# Altium schematic symbol library ZX_MyLib.SchLib: 567 symbols (part 4 of 5)
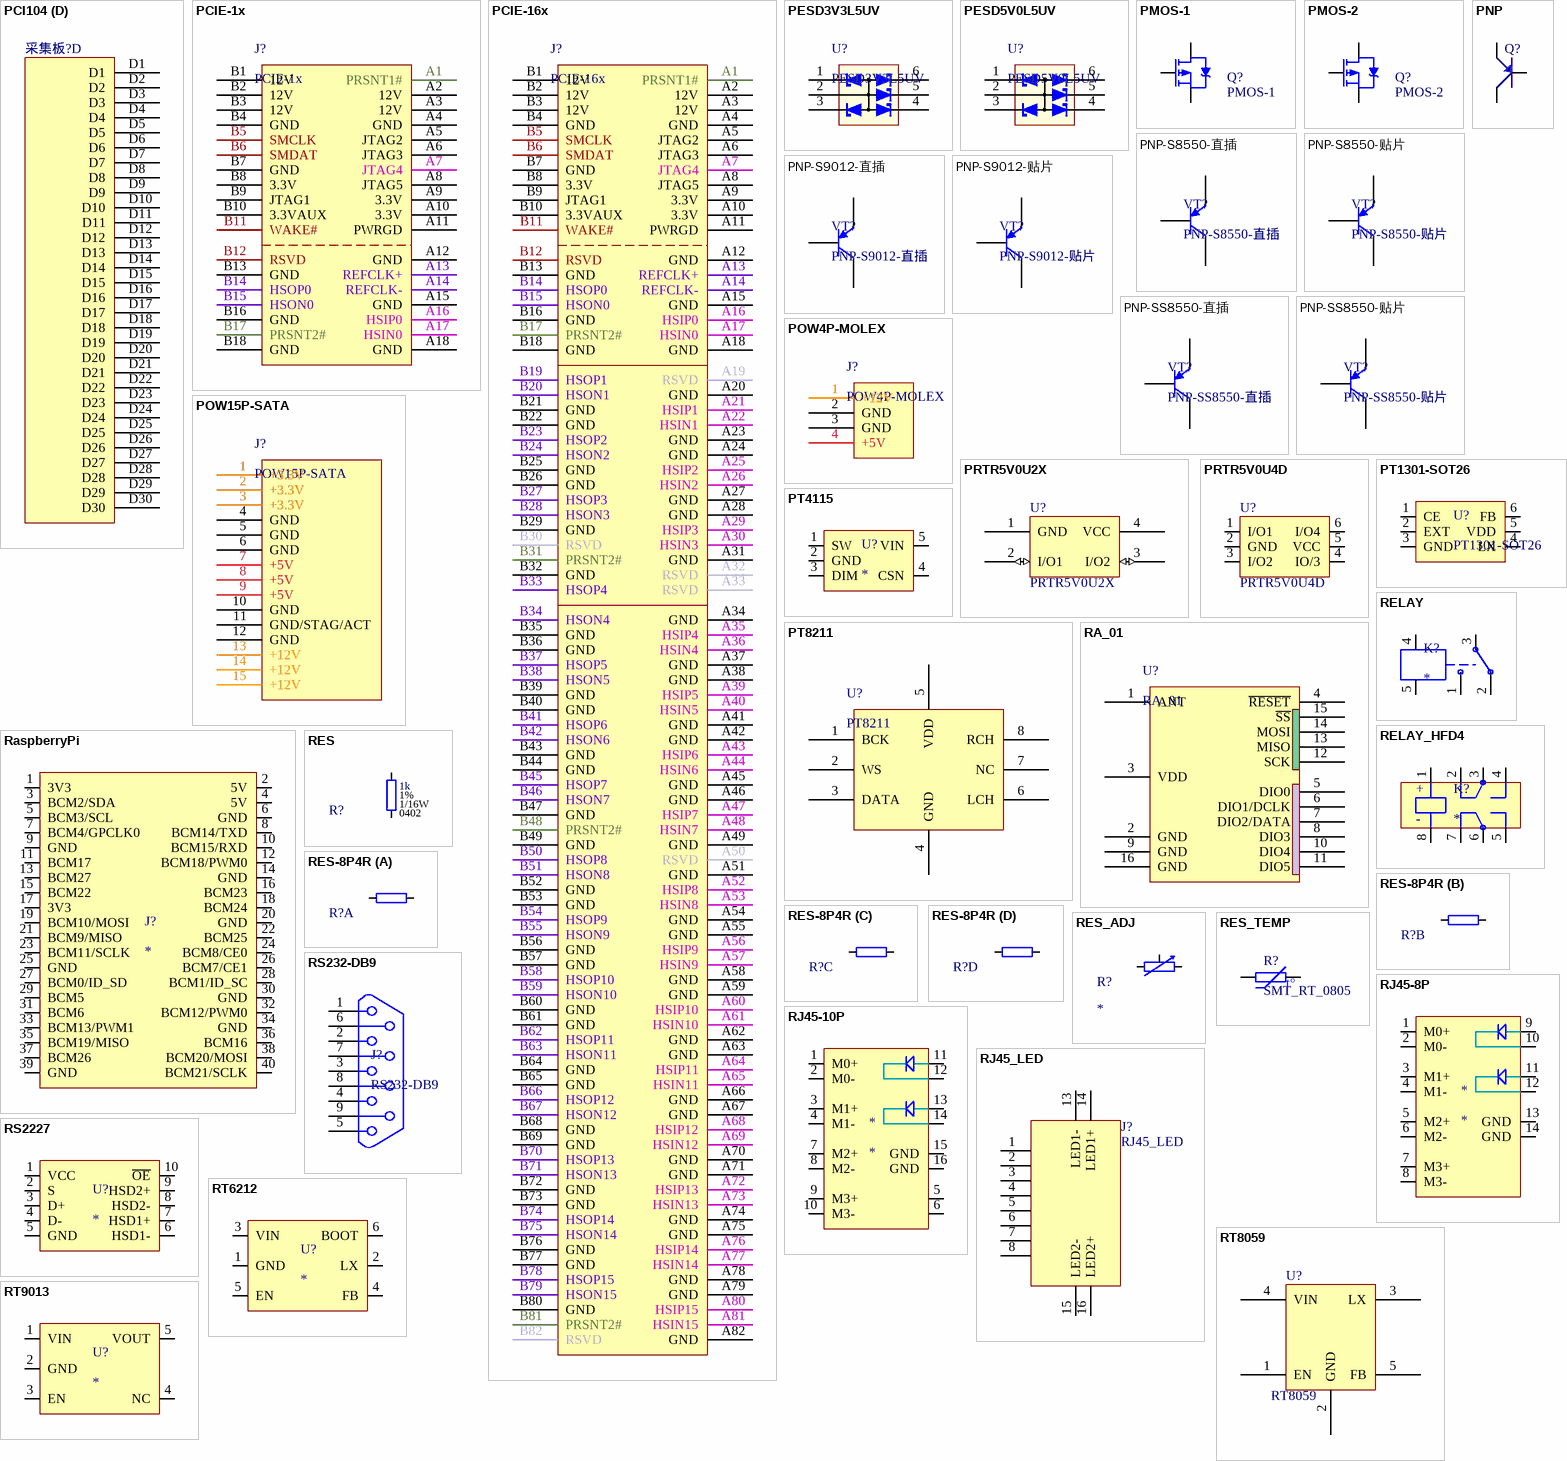
[diagram p33: symbols PCI104 to RT9013]

## RaspberryPi
designator J?
footprint 20PIN_2H_2.54MM
pins: 1 3V3, 2 5V, 3 BCM2/SDA, 4 5V, 5 BCM3/SCL, 6 GND, 7 BCM4/GPCLK0, 8 BCM14/TXD, 9 GND, 10 BCM15/RXD, 11 BCM17, 12 BCM18/PWM0, 13 BCM27, 14 GND, 15 BCM22, 16 BCM23, 17 3V3, 18 BCM24, 19 BCM10/MOSI, 20 GND, 21 BCM9/MISO, 22 BCM25, 23 BCM11/SCLK, 24 BCM8/CE0, 25 GND, 26 BCM7/CE1, 27 BCM0/ID_SD, 28 BCM1/ID_SC, 29 BCM5, 30 GND, 31 BCM6, 32 BCM12/PWM0, 33 BCM13/PWM1, 34 GND, 35 BCM19/MISO, 36 BCM16, 37 BCM26, 38 BCM20/MOSI, 39 GND, 40 BCM21/SCLK

## RELAY
designator K?
pins: 1, 2, 3, 4, 5

## RELAY_HFD4
designator K?
footprint HFD4_DIP
footprint HFD4_SMT
pins: 1, 2, 3, 4, 5, 6, 7, 8
text: +; -

## RES
designator R?  value 1k  Footprint: 0402  Tolerance: 1%  Wattage: 1/16W
贴片电阻
footprint 0402_RES_SMT
footprint 0603_RES_SMT
footprint 0805_RES_SMT
pins: 1, 2

## RES-8P4R
designator R?  (value not drawn)
footprint 0603 - RES - 8P4R
footprint RN0402-4
part A pins: 1, 2
part B pins: 3, 4
part C pins: 5, 6
part D pins: 7, 8

## RES_ADJ
designator R?
footprint 3296
pins: 1, 2, 3

## RES_TEMP
designator R?, comment SMT_RT_0805
Surface mount thermal resistor (thermistor) 0805
footprint SMT_R_0805 (Surface mount resistor 0805)
pins: 1, 2
text: t°

## RJ45-8P
designator *
footprint RJ-45 8P180D
pins: 1 M0+, 2 M0-, 3 M1+, 4 M1-, 5 M2+, 6 M2-, 7 M3+, 8 M3-, 9 LED1_A, 10 LED1_K, 11 LED1_A, 12 LED2_K, 13 GND, 14 GND
1 alternate drawing of the same symbol

## RJ45-10P
designator *
footprint RJ-45 10P180D
pins: 1 M0+, 2 M0-, 3 M1+, 4 M1-, 5, 6, 7 M2+, 8 M2-, 9 M3+, 10 M3-, 11 LED1_A, 12 LED1_K, 13 LED1_A, 14 LED2_K, 15 GND, 16 GND
1 alternate drawing of the same symbol

## RJ45_LED
designator J?
RJ45 With two LEDs
footprint RJ45_9803_LED (RJ45 9803 With LED)
pins: 1, 2, 3, 4, 5, 6, 7, 8, 13 LED1-, 14 LED1+, 15 LED2-, 16 LED2+

## RS232-DB9
designator J?
pins: 1, 2, 3, 4, 5, 6, 7, 8, 9

## RS2227
designator U?
USB 多路复用开关
footprint MSOP10
pins: 1 VCC, 2 S, 3 D+, 4 D-, 5 GND, 6 HSD1-, 7 HSD1+, 8 HSD2-, 9 HSD2+, 10 ~{OE}

## RT6212
designator U?
DCDC电源芯片
footprint SOT23-6 (SOT-457/SC-74; 6 Leads; Body 3 x 3 mm, inc. leads (LxW max))
pins: 1 GND, 2 LX, 3 VIN, 4 FB, 5 EN, 6 BOOT

## RT8059
designator U?
1.5MHz, 1A, High Efficiency PWM Step-Down DC/DC Converter
footprint SOT23-5 (SOT-23/SC-74A; 5 Leads; Body 3 x 3 mm, inc. leads (LxW max))
pins: 1 EN "Chip Enable Mode Switch", 2 GND "Ground", 3 LX "Switching Output", 4 VIN "Power Input", 5 FB "Output Voltage Sense"

## RT9013
designator U?
footprint SOT23-5 (SOT-23/SC-74A; 5 Leads; Body 3 x 3 mm, inc. leads (LxW max))
pins: 1 VIN, 2 GND, 3 EN, 4 NC, 5 VOUT

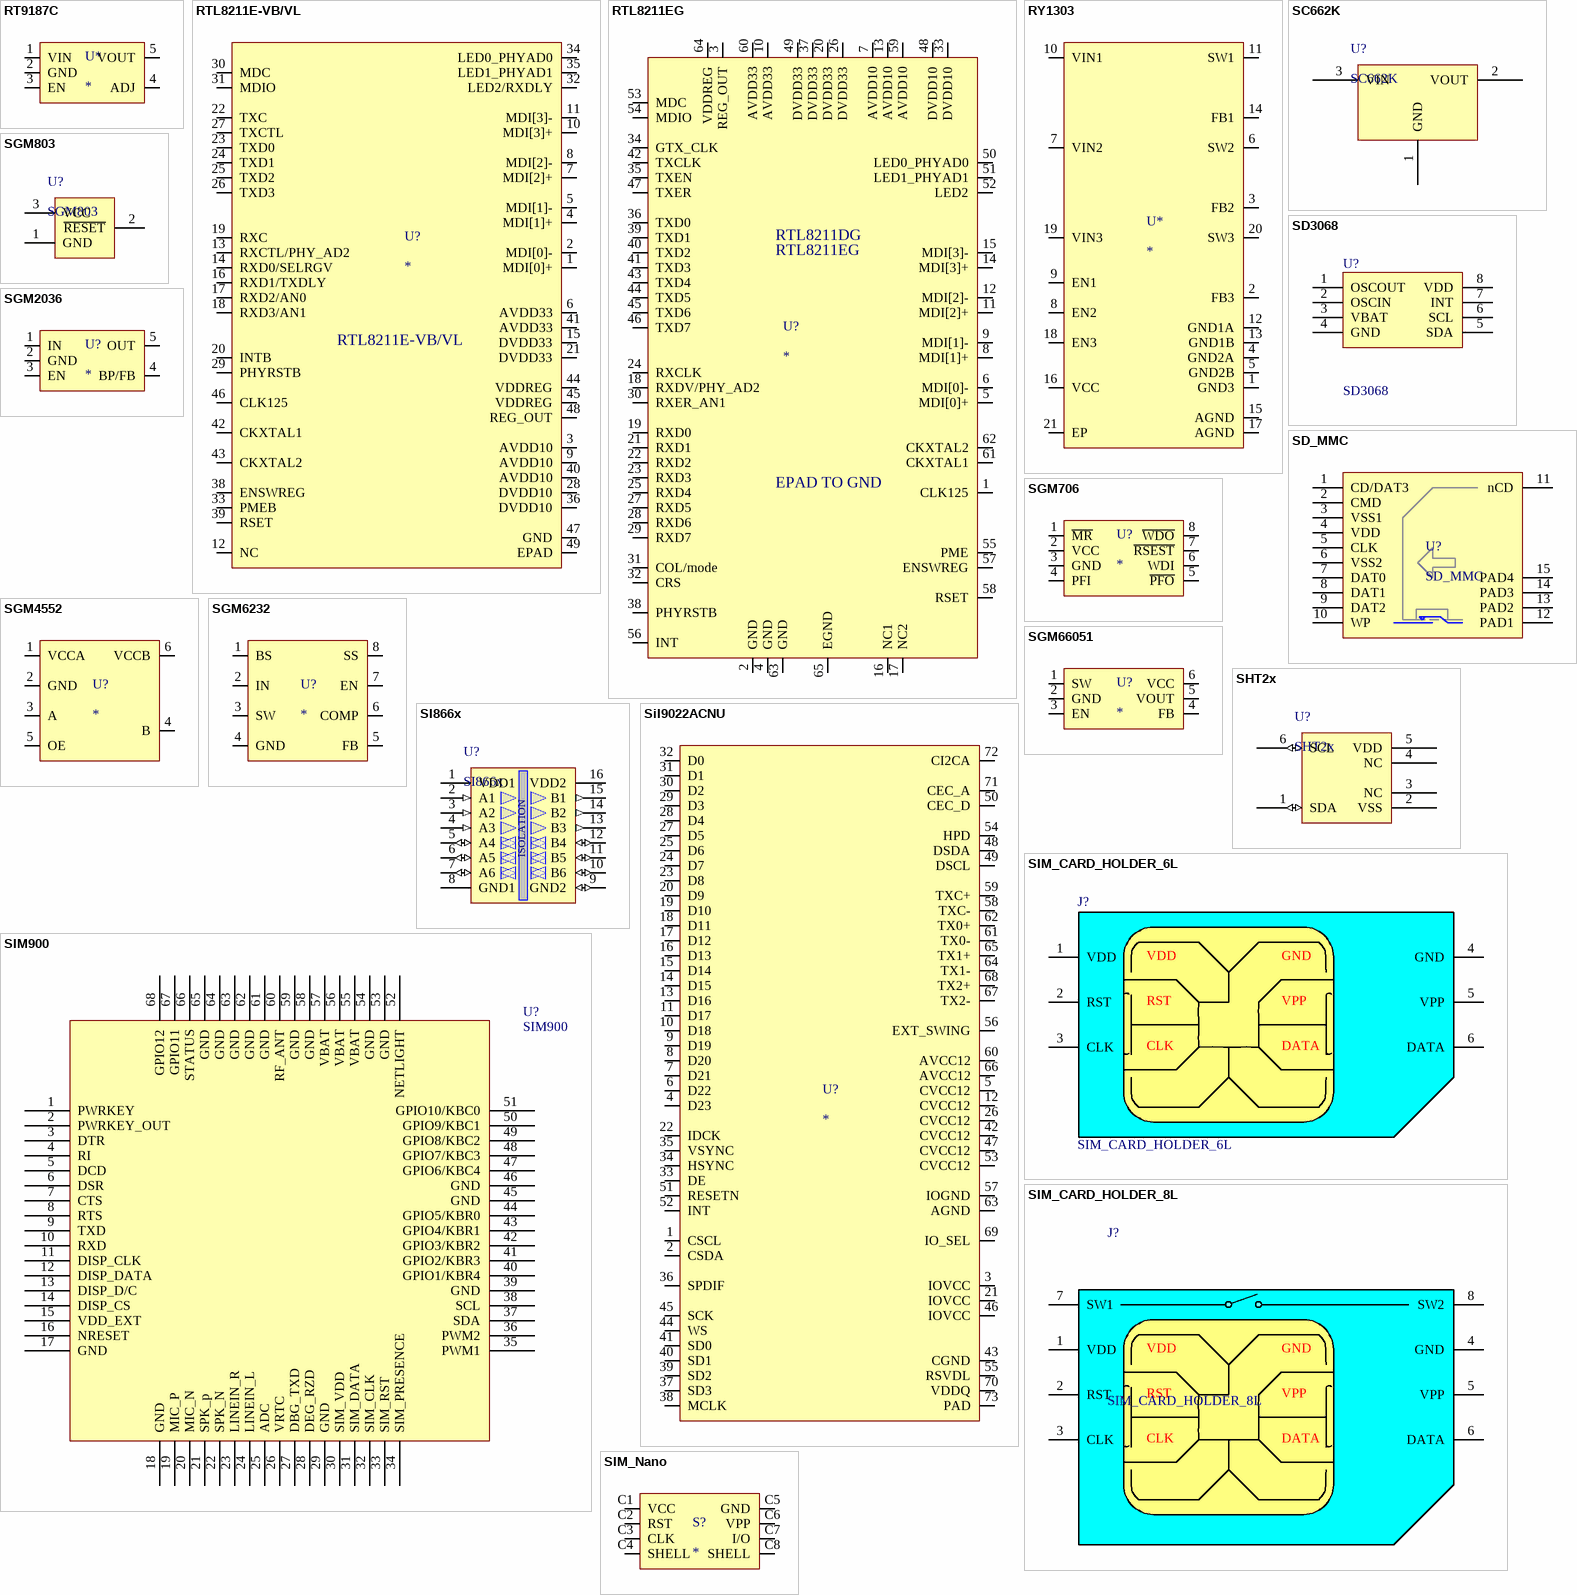
[diagram p20: symbols RT9187C to SIM_Nano]

## RT9187C
designator U*
pins: 1 VIN, 2 GND, 3 EN, 4 ADJ, 5 VOUT

## RTL8211E-VB/VL
designator U?
footprint QFN48 (QFN, 48-Leads, Body 6,0x6,0mm (max), Pitch 0,40mm, IPC Medium Density)
pins: 1 MDI[0]+, 2 MDI[0]-, 3 AVDD10, 4 MDI[1]+, 5 MDI[1]-, 6 AVDD33, 7 MDI[2]+, 8 MDI[2]-, 9 AVDD10, 10 MDI[3]+, 11 MDI[3]-, 12 NC, 13 RXCTL/PHY_AD2, 14 RXD0/SELRGV, 15 DVDD33, 16 RXD1/TXDLY, 17 RXD2/AN0, 18 RXD3/AN1, 19 RXC, 20 INTB, 21 DVDD33, 22 TXC, 23 TXD0, 24 TXD1, 25 TXD2, 26 TXD3, 27 TXCTL, 28 DVDD10, 29 PHYRSTB, 30 MDC, 31 MDIO, 32 LED2/RXDLY, 33 PMEB, 34 LED0_PHYAD0, 35 LED1_PHYAD1, 36 DVDD10, 38 ENSWREG, 39 RSET, 40 AVDD10, 41 AVDD33, 42 CKXTAL1, 43 CKXTAL2, 44 VDDREG, 45 VDDREG, 46 CLK125, 47 GND, 48 REG_OUT, 49 EPAD

## RTL8211EG
designator U?
footprint QFN64 (QFN65-050-0909)
pins: 1 CLK125, 2 GND, 3 REG_OUT, 4 GND, 5 MDI[0]+, 6 MDI[0]-, 7 AVDD10, 8 MDI[1]+, 9 MDI[1]-, 10 AVDD33, 11 MDI[2]+, 12 MDI[2]-, 13 AVDD10, 14 MDI[3]+, 15 MDI[3]-, 16 NC1, 17 NC2, 18 RXDV/PHY_AD2, 19 RXD0, 20 DVDD33, 21 RXD1, 22 RXD2, 23 RXD3, 24 RXCLK, 25 RXD4, 26 DVDD33, 27 RXD5, 28 RXD6, 29 RXD7, 30 RXER_AN1, 31 COL/mode, 32 CRS, 33 DVDD10, 34 GTX_CLK, 35 TXEN, 36 TXD0, 37 DVDD33, 38 PHYRSTB, 39 TXD1, 40 TXD2, 41 TXD3, 42 TXCLK, 43 TXD4, 44 TXD5, 45 TXD6, 46 TXD7, 47 TXER, 48 DVDD10, 49 DVDD33, 50 LED0_PHYAD0, 51 LED1_PHYAD1, 52 LED2, 53 MDC, 54 MDIO, 55 PME, 56 INT, 57 ENSWREG, 58 RSET, 59 AVDD10, 60 AVDD33, 61 CKXTAL1, 62 CKXTAL2, 63 GND, 64 VDDREG, 65 EGND
text: RTL8211DG; EPAD TO GND

## RY1303
designator U*
3路输出DC-DC电源芯片
footprint QFN20_3X3_RY1303
pins: 1 GND3, 2 FB3, 3 FB2, 4 GND2A, 5 GND2B, 6 SW2, 7 VIN2, 8 EN2, 9 EN1, 10 VIN1, 11 SW1, 12 GND1A, 13 GND1B, 14 FB1, 15 AGND, 16 VCC, 17 AGND, 18 EN3, 19 VIN3, 20 SW3, 21 EP

## SC662K
designator U?
250mA Low Dropout Voltage Regulator IC
footprint SOT23-3 (SOT-23; 3 Leads; Body 3.0 x 2.5 mm, inc. leads (LxW max))
pins: 1 GND "Ground", 2 VOUT "Voltage Output", 3 VIN "Voltage Input"

## SD3068
designator U?
SD3068 RTC Timer, Built in resonant capacitor, full temperature compensation of the real time clock IC; VENDOR: www.whwave.com.cn
footprint SOP-8 (8-Pin Small Outline Integrated Circuit 1.27 mm Pitch, IPC Low Density)
pins: 1 OSCOUT "0～1.5V Crystal oscillator output", 2 OSCIN "0～1.5V Crystal oscillator input", 3 VBAT "2.3V～5.5V Standby battery input pin, built-in voltage and charging current optional charge Circuit", 4 GND "Ground", 5 SDA "Serial data input / output pin, the pin usually with a pull-up resistance To VDD, and the collector open output device and other open drain or Through the line and connected.", 6 SCL "Serial clock input pin, due to the rising / falling edge of SCL in the processing signal Number, pay particular attention to the rise / fall time of SCL signal, Should strictly comply with the specification.", 7 INT "Alarm interrupt output pin, according to the control register to set up their work It can model, to prohibit by rewriting the control register.", 8 VDD "Power 2.7V～5.5V"

## SD_MMC
designator U?
SD and MMC CARD Holder
footprint SD_MMC (SD and MMC CARD Holder)
pins: 1 CD/DAT3, 2 CMD, 3 VSS1, 4 VDD, 5 CLK, 6 VSS2, 7 DAT0, 8 DAT1, 9 DAT2, 10 WP, 11 nCD, 12 PAD1, 13 PAD2, 14 PAD3, 15 PAD4

## SGM706
designator U?
footprint SOP-8_M (8-Pin Small Outline Integrated Circuit 1.27 mm Pitch, IPC Low Density)
pins: 1 ~{MR}, 2 VCC, 3 GND, 4 PFI, 5 ~{PFO}, 6 WDI, 7 ~{RSEST}, 8 ~{WDO}

## SGM803
designator U?
SGM803/SGM809/SGM810 / Microprocessor Supervisory / Circuit
footprint SOT23-3 (SOT-23; 3 Leads; Body 3.0 x 2.5 mm, inc. leads (LxW max))
pins: 1 GND (power) "Ground", 2 ~{RESET} "Open-Drain RESET Output", 3 VCC (power) "Power supply"

## SGM2036
designator U?
pins: 1 IN, 2 GND, 3 EN, 4 BP/FB, 5 OUT

## SGM4552
designator U?
footprint SOT23-6 (SOT-457/SC-74; 6 Leads; Body 3 x 3 mm, inc. leads (LxW max))
pins: 1 VCCA, 2 GND, 3 A, 4 B, 5 OE, 6 VCCB

## SGM6232
designator U?
2A, 38V, 1.4MHz Step-Down Converter
pins: 1 BS, 2 IN, 3 SW, 4 GND, 5 FB, 6 COMP, 7 EN, 8 SS

## SGM66051
designator U?
footprint SOT23-6 (SOT-457/SC-74; 6 Leads; Body 3 x 3 mm, inc. leads (LxW max))
pins: 1 SW, 2 GND, 3 EN, 4 FB, 5 VOUT, 6 VCC

## SHT2x
designator U?
Humidity and Temperature Sensor
footprint SHT2x (SHT2x, The outer dotted line represents the  outer dime  nsion of the DFN package)
pins: 1 SDA (io) "Serial  Data  , bidirectional", 2 VSS (power) "Ground", 3 NC "Not Connected, floating", 4 NC "Not Connected, floating", 5 VDD (power) "Supply Voltage", 6 SCL (io) "Serial Clock, bidirectional"

## SI866x
designator U?
SI866x LOW POWER SIX-CHANNEL DIGITAL ISOLATOR
footprint SOP-16 (16-Pin Small Outline Integrated Circuit 1.27 mm Pitch, IPC Low Density)
pins: 1 VDD1 (power) "Side 1 power supply", 2 A1 (in) "Side 1 digital input", 3 A2 (in) "Side 1 digital input", 4 A3 (in) "Side 1 digital input", 5 A4 (io), 6 A5 (io), 7 A6 (io), 8 GND1 (power), 9 GND2 (io), 10 B6 (io), 11 B5 (io), 12 B4 (io), 13 B3 (out), 14 B2 (out), 15 B1 (out), 16 VDD2 (power)
text: ISOLATION

## SiI9022ACNU
designator U?
footprint QFN_72 (10x10mm, 0.5mm)
pins: 1 CSCL, 2 CSDA, 3 IOVCC, 4 D23, 5 CVCC12, 6 D22, 7 D21, 8 D20, 9 D19, 10 D18, 11 D17, 12 CVCC12, 13 D16, 14 D15, 15 D14, 16 D13, 17 D12, 18 D11, 19 D10, 20 D9, 21 IOVCC, 22 IDCK, 23 D8, 24 D7, 25 D6, 26 CVCC12, 27 D5, 28 D4, 29 D3, 30 D2, 31 D1, 32 D0, 33 DE, 34 HSYNC, 35 VSYNC, 36 SPDIF, 37 SD3, 38 MCLK, 39 SD2, 40 SD1, 41 SD0, 42 CVCC12, 43 CGND, 44 WS, 45 SCK, 46 IOVCC, 47 CVCC12, 48 DSDA, 49 DSCL, 50 CEC_D, 51 RESETN, 52 INT, 53 CVCC12, 54 HPD, 55 RSVDL, 56 EXT_SWING, 57 IOGND, 58 TXC-, 59 TXC+, 60 AVCC12, 61 TX0-, 62 TX0+, 63 AGND, 64 TX1-, 65 TX1+, 66 AVCC12, 67 TX2-, 68 TX2+, 69 IO_SEL, 70 VDDQ, 71 CEC_A, 72 CI2CA, 73 PAD

## SIM900
designator U?
SIM900/SIM900A
footprint SIM900
footprint SIM900
pins: 1 PWRKEY, 2 PWRKEY_OUT, 3 DTR, 4 RI, 5 DCD, 6 DSR, 7 CTS, 8 RTS, 9 TXD, 10 RXD, 11 DISP_CLK, 12 DISP_DATA, 13 DISP_D/C, 14 DISP_CS, 15 VDD_EXT, 16 NRESET, 17 GND, 18 GND, 19 MIC_P, 20 MIC_N, 21 SPK_p, 22 SPK_N, 23 LINEIN_R, 24 LINEIN_L, 25 ADC, 26 VRTC, 27 DBG_TXD, 28 DEG_RZD, 29 GND, 30 SIM_VDD, 31 SIM_DATA, 32 SIM_CLK, 33 SIM_RST, 34 SIM_PRESENCE, 35 PWM1, 36 PWM2, 37 SDA, 38 SCL, 39 GND, 40 GPIO1/KBR4, 41 GPIO2/KBR3, 42 GPIO3/KBR2, 43 GPIO4/KBR1, 44 GPIO5/KBR0, 45 GND, 46 GND, 47 GPIO6/KBC4, 48 GPIO7/KBC3, 49 GPIO8/KBC2, 50 GPIO9/KBC1, 51 GPIO10/KBC0, 52 NETLIGHT, 53 GND, 54 GND, 55 VBAT, 56 VBAT, 57 VBAT, 58 GND, 59 GND, 60 RF_ANT, 61 GND, 62 GND, 63 GND, 64 GND, 65 GND, 66 STATUS, 67 GPIO11, 68 GPIO12

## SIM_CARD_HOLDER_6L
designator J?
SIM CARD HOLDER
footprint SIMCARD_HOLDER_6L_CLAMSHELL (Simcard holder)
pins: 1 VDD, 2 RST, 3 CLK, 4 GND, 5 VPP, 6 DATA
2 alternate drawings of the same symbol

## SIM_CARD_HOLDER_8L
designator J?
SIM CARD HOLDER
footprint SIMCARD_HOLDER_8L (Simcard holder)
pins: 1 VDD, 2 RST, 3 CLK, 4 GND, 5 VPP, 6 DATA, 7 SW1, 8 SW2

## SIM_Nano
designator S?
footprint SIM_NANO
pins: C1 VCC, C2 RST, C3 CLK, C4 SHELL, C5 GND, C6 VPP, C7 I/O, C8 SHELL

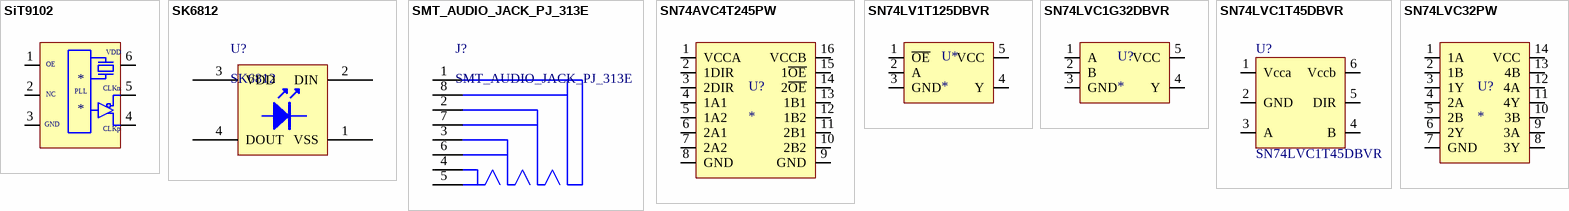
[diagram p21: symbols SiT9102 to SN74LVC32PW]

## SiT9102
designator *
差分晶振
footprint 7050-6 (OSC6-5X7)
pins: 1 OE, 2 NC, 3 GND, 4 CLKP, 5 CLKN, 6 VDD
text: PLL; CLKn; CLKp

## SK6812
designator U?
SK6812 is a set of smart control circuit and a light emitting circuit in  one of the controlled LED source.
footprint SK6812_5050 (SMT LED)
pins: 1 VSS "Ground", 2 DIN "Control data signal input", 3 VDD "Power supply LED", 4 DOUT "Control data signal output"

## SMT_AUDIO_JACK_PJ_313E
designator J?
PJ-313E 3.5mm SMT Audio Jack
footprint SMT_AUDIO_JACK_PJ_313E (PJ-313E 3.5mm SMT Audio Jack)
pins: 1 GND/MIC "Ground or Microphone", 2 MIC/GND "Microphone or Ground", 3 RCH "Right channel", 4 LCH "Left channel", 5 LCH "Left channel", 6 RCH "Right channel", 7 MIC/GND "Microphone or Ground", 8 GND/MIC "Ground or Microphone"

## SN74AVC4T245PW
designator U?
具有可配置电压转换和三态输出的 4 位双电源总线收发器
pins: 1 VCCA, 2 1DIR, 3 2DIR, 4 1A1, 5 1A2, 6 2A1, 7 2A2, 8 GND, 9 GND, 10 2B2, 11 2B1, 12 1B2, 13 1B1, 14 2~{OE}, 15 1~{OE}, 16 VCCB

## SN74LV1T125DBVR
designator U*
footprint SOT-23-5
pins: 1 ~{OE}, 2 A, 3 GND, 4 Y, 5 VCC

## SN74LVC1G32DBVR
designator U?
或门
footprint SOT23-5 (SOT-23/SC-74A; 5 Leads; Body 3 x 3 mm, inc. leads (LxW max))
pins: 1 A, 2 B, 3 GND, 4 Y, 5 VCC

## SN74LVC1T45DBVR
designator U?
Single-Bit Dual-Supply Bus Transceiver With Configurable Voltage / Translation and 3-State Outputs
footprint SOT23-6 (SOT-457/SC-74; 6 Leads; Body 3 x 3 mm, inc. leads (LxW max))
pins: 1 Vcca (power) "SYSTEM-1 supply voltage (1.65 V to 5.5 V)", 2 GND (power) "Device GND", 3 A "Output level depends on VCC1 voltage.", 4 B "Input threshold value depends on VCC2 voltage.", 5 DIR "GND (low level) determines B-port to A-port direction.", 6 Vccb (power) "SYSTEM-2 supply voltage (1.65 V to 5.5 V)"

## SN74LVC32PW
designator U?
footprint TSSOP14
pins: 1 1A, 2 1B, 3 1Y, 4 2A, 5 2B, 6 2Y, 7 GND, 8 3Y, 9 3A, 10 3B, 11 4Y, 12 4A, 13 4B, 14 VCC

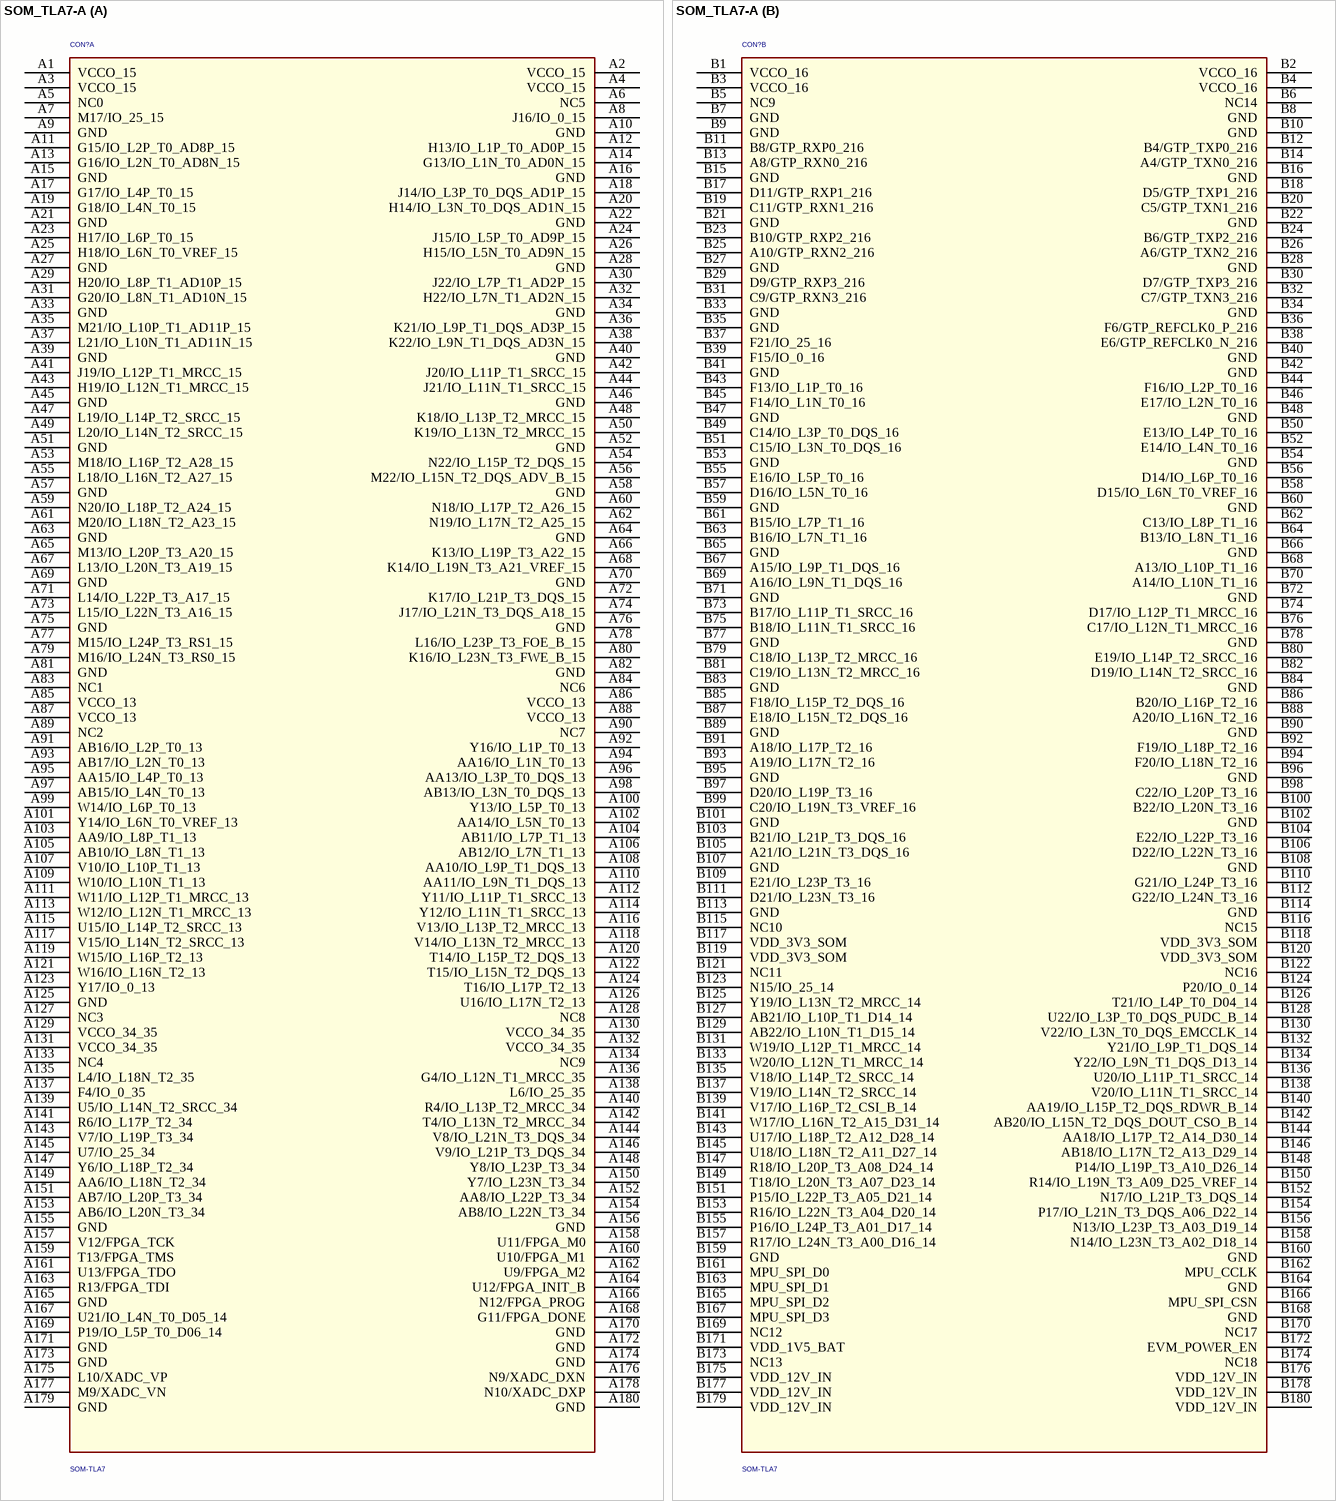
[diagram p22: symbol SOM_TLA7-A]

## SOM_TLA7-A
designator CON?, comment SOM-TLA7
Manufacturer PartNumber: BSH-090-01-L-D-A-TR BTH-090-01-L-D-A-K-TR; Manufacturer: SAMTEC; Remark: BTB 180Pin 0.5mm间距 ，CON0A为母座，高度3.25mm，CON0B为公座 高度4.27MM 合高5MM
footprint SOM-TLA7-A2
part A pins: A1 VCCO_15 (power), A2 VCCO_15 (power), A3 VCCO_15 (power), A4 VCCO_15 (power), A5 NC0, A6 NC5, A7 M17/IO_25_15, A8 J16/IO_0_15, A9 GND (power), A10 GND (power), A11 G15/IO_L2P_T0_AD8P_15, A12 H13/IO_L1P_T0_AD0P_15, A13 G16/IO_L2N_T0_AD8N_15, A14 G13/IO_L1N_T0_AD0N_15, A15 GND (power), A16 GND (power), A17 G17/IO_L4P_T0_15, A18 J14/IO_L3P_T0_DQS_AD1P_15, A19 G18/IO_L4N_T0_15, A20 H14/IO_L3N_T0_DQS_AD1N_15, A21 GND (power), A22 GND (power), A23 H17/IO_L6P_T0_15, A24 J15/IO_L5P_T0_AD9P_15, A25 H18/IO_L6N_T0_VREF_15, A26 H15/IO_L5N_T0_AD9N_15, A27 GND (power), A28 GND (power), A29 H20/IO_L8P_T1_AD10P_15, A30 J22/IO_L7P_T1_AD2P_15, A31 G20/IO_L8N_T1_AD10N_15, A32 H22/IO_L7N_T1_AD2N_15, A33 GND (power), A34 GND (power), A35 M21/IO_L10P_T1_AD11P_15, A36 K21/IO_L9P_T1_DQS_AD3P_15, A37 L21/IO_L10N_T1_AD11N_15, A38 K22/IO_L9N_T1_DQS_AD3N_15, A39 GND (power), A40 GND (power), A41 J19/IO_L12P_T1_MRCC_15, A42 J20/IO_L11P_T1_SRCC_15, A43 H19/IO_L12N_T1_MRCC_15, A44 J21/IO_L11N_T1_SRCC_15, A45 GND (power), A46 GND (power), A47 L19/IO_L14P_T2_SRCC_15, A48 K18/IO_L13P_T2_MRCC_15, A49 L20/IO_L14N_T2_SRCC_15, A50 K19/IO_L13N_T2_MRCC_15, A51 GND (power), A52 GND (power), A53 M18/IO_L16P_T2_A28_15, A54 N22/IO_L15P_T2_DQS_15, A55 L18/IO_L16N_T2_A27_15, A56 M22/IO_L15N_T2_DQS_ADV_B_15, A57 GND (power), A58 GND (power), A59 N20/IO_L18P_T2_A24_15, A60 N18/IO_L17P_T2_A26_15, A61 M20/IO_L18N_T2_A23_15, A62 N19/IO_L17N_T2_A25_15, A63 GND (power), A64 GND (power), A65 M13/IO_L20P_T3_A20_15, A66 K13/IO_L19P_T3_A22_15, A67 L13/IO_L20N_T3_A19_15, A68 K14/IO_L19N_T3_A21_VREF_15, A69 GND (power), A70 GND (power), A71 L14/IO_L22P_T3_A17_15, A72 K17/IO_L21P_T3_DQS_15, A73 L15/IO_L22N_T3_A16_15, A74 J17/IO_L21N_T3_DQS_A18_15, A75 GND (power), A76 GND (power), A77 M15/IO_L24P_T3_RS1_15, A78 L16/IO_L23P_T3_FOE_B_15, A79 M16/IO_L24N_T3_RS0_15, A80 K16/IO_L23N_T3_FWE_B_15, A81 GND (power), A82 GND (power), A83 NC1, A84 NC6, A85 VCCO_13 (power), A86 VCCO_13 (power), A87 VCCO_13 (power), A88 VCCO_13 (power), A89 NC2, A90 NC7, A91 AB16/IO_L2P_T0_13, A92 Y16/IO_L1P_T0_13, A93 AB17/IO_L2N_T0_13, A94 AA16/IO_L1N_T0_13, A95 AA15/IO_L4P_T0_13, A96 AA13/IO_L3P_T0_DQS_13, A97 AB15/IO_L4N_T0_13, A98 AB13/IO_L3N_T0_DQS_13, A99 W14/IO_L6P_T0_13, A100 Y13/IO_L5P_T0_13, A101 Y14/IO_L6N_T0_VREF_13, A102 AA14/IO_L5N_T0_13, A103 AA9/IO_L8P_T1_13, A104 AB11/IO_L7P_T1_13, A105 AB10/IO_L8N_T1_13, A106 AB12/IO_L7N_T1_13, A107 V10/IO_L10P_T1_13, A108 AA10/IO_L9P_T1_DQS_13, A109 W10/IO_L10N_T1_13, A110 AA11/IO_L9N_T1_DQS_13, A111 W11/IO_L12P_T1_MRCC_13, A112 Y11/IO_L11P_T1_SRCC_13, A113 W12/IO_L12N_T1_MRCC_13, A114 Y12/IO_L11N_T1_SRCC_13, A115 U15/IO_L14P_T2_SRCC_13, A116 V13/IO_L13P_T2_MRCC_13, A117 V15/IO_L14N_T2_SRCC_13, A118 V14/IO_L13N_T2_MRCC_13, A119 W15/IO_L16P_T2_13, A120 T14/IO_L15P_T2_DQS_13, A121 W16/IO_L16N_T2_13, A122 T15/IO_L15N_T2_DQS_13, A123 Y17/IO_0_13, A124 T16/IO_L17P_T2_13, A125 GND (power), A126 U16/IO_L17N_T2_13, A127 NC3, A128 NC8, A129 VCCO_34_35 (power), A130 VCCO_34_35 (power), A131 VCCO_34_35 (power), A132 VCCO_34_35 (power), A133 NC4, A134 NC9, A135 L4/IO_L18N_T2_35, A136 G4/IO_L12N_T1_MRCC_35, A137 F4/IO_0_35, A138 L6/IO_25_35, A139 U5/IO_L14N_T2_SRCC_34, A140 R4/IO_L13P_T2_MRCC_34, A141 R6/IO_L17P_T2_34, A142 T4/IO_L13N_T2_MRCC_34, A143 V7/IO_L19P_T3_34, A144 V8/IO_L21N_T3_DQS_34, A145 U7/IO_25_34, A146 V9/IO_L21P_T3_DQS_34, A147 Y6/IO_L18P_T2_34, A148 Y8/IO_L23P_T3_34, A149 AA6/IO_L18N_T2_34, A150 Y7/IO_L23N_T3_34, A151 AB7/IO_L20P_T3_34, A152 AA8/IO_L22P_T3_34, A153 AB6/IO_L20N_T3_34, A154 AB8/IO_L22N_T3_34, A155 GND (power), A156 GND (power), A157 V12/FPGA_TCK, A158 U11/FPGA_M0, A159 T13/FPGA_TMS, A160 U10/FPGA_M1, A161 U13/FPGA_TDO, A162 U9/FPGA_M2, A163 R13/FPGA_TDI, A164 U12/FPGA_INIT_B, A165 GND (power), A166 N12/FPGA_PROG, A167 U21/IO_L4N_T0_D05_14, A168 G11/FPGA_DONE, A169 P19/IO_L5P_T0_D06_14, A170 GND (power), A171 GND (power), A172 GND (power), A173 GND (power), A174 GND (power), A175 L10/XADC_VP, A176 N9/XADC_DXN, A177 M9/XADC_VN, A178 N10/XADC_DXP, A179 GND (power), A180 GND (power)
part B pins: B1 VCCO_16 (power), B2 VCCO_16 (power), B3 VCCO_16 (power), B4 VCCO_16 (power), B5 NC9, B6 NC14, B7 GND (power), B8 GND (power), B9 GND (power), B10 GND (power), B11 B8/GTP_RXP0_216, B12 B4/GTP_TXP0_216, B13 A8/GTP_RXN0_216, B14 A4/GTP_TXN0_216, B15 GND (power), B16 GND (power), B17 D11/GTP_RXP1_216, B18 D5/GTP_TXP1_216, B19 C11/GTP_RXN1_216, B20 C5/GTP_TXN1_216, B21 GND (power), B22 GND (power), B23 B10/GTP_RXP2_216, B24 B6/GTP_TXP2_216, B25 A10/GTP_RXN2_216, B26 A6/GTP_TXN2_216, B27 GND (power), B28 GND (power), B29 D9/GTP_RXP3_216, B30 D7/GTP_TXP3_216, B31 C9/GTP_RXN3_216, B32 C7/GTP_TXN3_216, B33 GND (power), B34 GND (power), B35 GND (power), B36 F6/GTP_REFCLK0_P_216, B37 F21/IO_25_16, B38 E6/GTP_REFCLK0_N_216, B39 F15/IO_0_16, B40 GND (power), B41 GND (power), B42 GND (power), B43 F13/IO_L1P_T0_16, B44 F16/IO_L2P_T0_16, B45 F14/IO_L1N_T0_16, B46 E17/IO_L2N_T0_16, B47 GND (power), B48 GND (power), B49 C14/IO_L3P_T0_DQS_16, B50 E13/IO_L4P_T0_16, B51 C15/IO_L3N_T0_DQS_16, B52 E14/IO_L4N_T0_16, B53 GND (power), B54 GND (power), B55 E16/IO_L5P_T0_16, B56 D14/IO_L6P_T0_16, B57 D16/IO_L5N_T0_16, B58 D15/IO_L6N_T0_VREF_16, B59 GND (power), B60 GND (power), B61 B15/IO_L7P_T1_16, B62 C13/IO_L8P_T1_16, B63 B16/IO_L7N_T1_16, B64 B13/IO_L8N_T1_16, B65 GND (power), B66 GND (power), B67 A15/IO_L9P_T1_DQS_16, B68 A13/IO_L10P_T1_16, B69 A16/IO_L9N_T1_DQS_16, B70 A14/IO_L10N_T1_16, B71 GND (power), B72 GND (power), B73 B17/IO_L11P_T1_SRCC_16, B74 D17/IO_L12P_T1_MRCC_16, B75 B18/IO_L11N_T1_SRCC_16, B76 C17/IO_L12N_T1_MRCC_16, B77 GND (power), B78 GND (power), B79 C18/IO_L13P_T2_MRCC_16, B80 E19/IO_L14P_T2_SRCC_16, B81 C19/IO_L13N_T2_MRCC_16, B82 D19/IO_L14N_T2_SRCC_16, B83 GND (power), B84 GND (power), B85 F18/IO_L15P_T2_DQS_16, B86 B20/IO_L16P_T2_16, B87 E18/IO_L15N_T2_DQS_16, B88 A20/IO_L16N_T2_16, B89 GND (power), B90 GND (power), B91 A18/IO_L17P_T2_16, B92 F19/IO_L18P_T2_16, B93 A19/IO_L17N_T2_16, B94 F20/IO_L18N_T2_16, B95 GND (power), B96 GND (power), B97 D20/IO_L19P_T3_16, B98 C22/IO_L20P_T3_16, B99 C20/IO_L19N_T3_VREF_16, B100 B22/IO_L20N_T3_16, B101 GND (power), B102 GND (power), B103 B21/IO_L21P_T3_DQS_16, B104 E22/IO_L22P_T3_16, B105 A21/IO_L21N_T3_DQS_16, B106 D22/IO_L22N_T3_16, B107 GND (power), B108 GND (power), B109 E21/IO_L23P_T3_16, B110 G21/IO_L24P_T3_16, B111 D21/IO_L23N_T3_16, B112 G22/IO_L24N_T3_16, B113 GND (power), B114 GND (power), B115 NC10, B116 NC15, B117 VDD_3V3_SOM (power), B118 VDD_3V3_SOM (power), B119 VDD_3V3_SOM (power), B120 VDD_3V3_SOM (power), B121 NC11, B122 NC16, B123 N15/IO_25_14, B124 P20/IO_0_14, B125 Y19/IO_L13N_T2_MRCC_14, B126 T21/IO_L4P_T0_D04_14, B127 AB21/IO_L10P_T1_D14_14, B128 U22/IO_L3P_T0_DQS_PUDC_B_14, B129 AB22/IO_L10N_T1_D15_14, B130 V22/IO_L3N_T0_DQS_EMCCLK_14, B131 W19/IO_L12P_T1_MRCC_14, B132 Y21/IO_L9P_T1_DQS_14, B133 W20/IO_L12N_T1_MRCC_14, B134 Y22/IO_L9N_T1_DQS_D13_14, B135 V18/IO_L14P_T2_SRCC_14, B136 U20/IO_L11P_T1_SRCC_14, B137 V19/IO_L14N_T2_SRCC_14, B138 V20/IO_L11N_T1_SRCC_14, B139 V17/IO_L16P_T2_CSI_B_14, B140 AA19/IO_L15P_T2_DQS_RDWR_B_14, B141 W17/IO_L16N_T2_A15_D31_14, B142 AB20/IO_L15N_T2_DQS_DOUT_CSO_B_14, B143 U17/IO_L18P_T2_A12_D28_14, B144 AA18/IO_L17P_T2_A14_D30_14, B145 U18/IO_L18N_T2_A11_D27_14, B146 AB18/IO_L17N_T2_A13_D29_14, B147 R18/IO_L20P_T3_A08_D24_14, B148 P14/IO_L19P_T3_A10_D26_14, B149 T18/IO_L20N_T3_A07_D23_14, B150 R14/IO_L19N_T3_A09_D25_VREF_14, B151 P15/IO_L22P_T3_A05_D21_14, B152 N17/IO_L21P_T3_DQS_14, B153 R16/IO_L22N_T3_A04_D20_14, B154 P17/IO_L21N_T3_DQS_A06_D22_14, B155 P16/IO_L24P_T3_A01_D17_14, B156 N13/IO_L23P_T3_A03_D19_14, B157 R17/IO_L24N_T3_A00_D16_14, B158 N14/IO_L23N_T3_A02_D18_14, B159 GND (power), B160 GND (power), B161 MPU_SPI_D0, B162 MPU_CCLK, B163 MPU_SPI_D1, B164 GND (power), B165 MPU_SPI_D2, B166 MPU_SPI_CSN, B167 MPU_SPI_D3, B168 GND (power), B169 NC12, B170 NC17, B171 VDD_1V5_BAT, B172 EVM_POWER_EN, B173 NC13, B174 NC18, B175 VDD_12V_IN (power), B176 VDD_12V_IN (power), B177 VDD_12V_IN (power), B178 VDD_12V_IN (power), B179 VDD_12V_IN (power), B180 VDD_12V_IN (power)

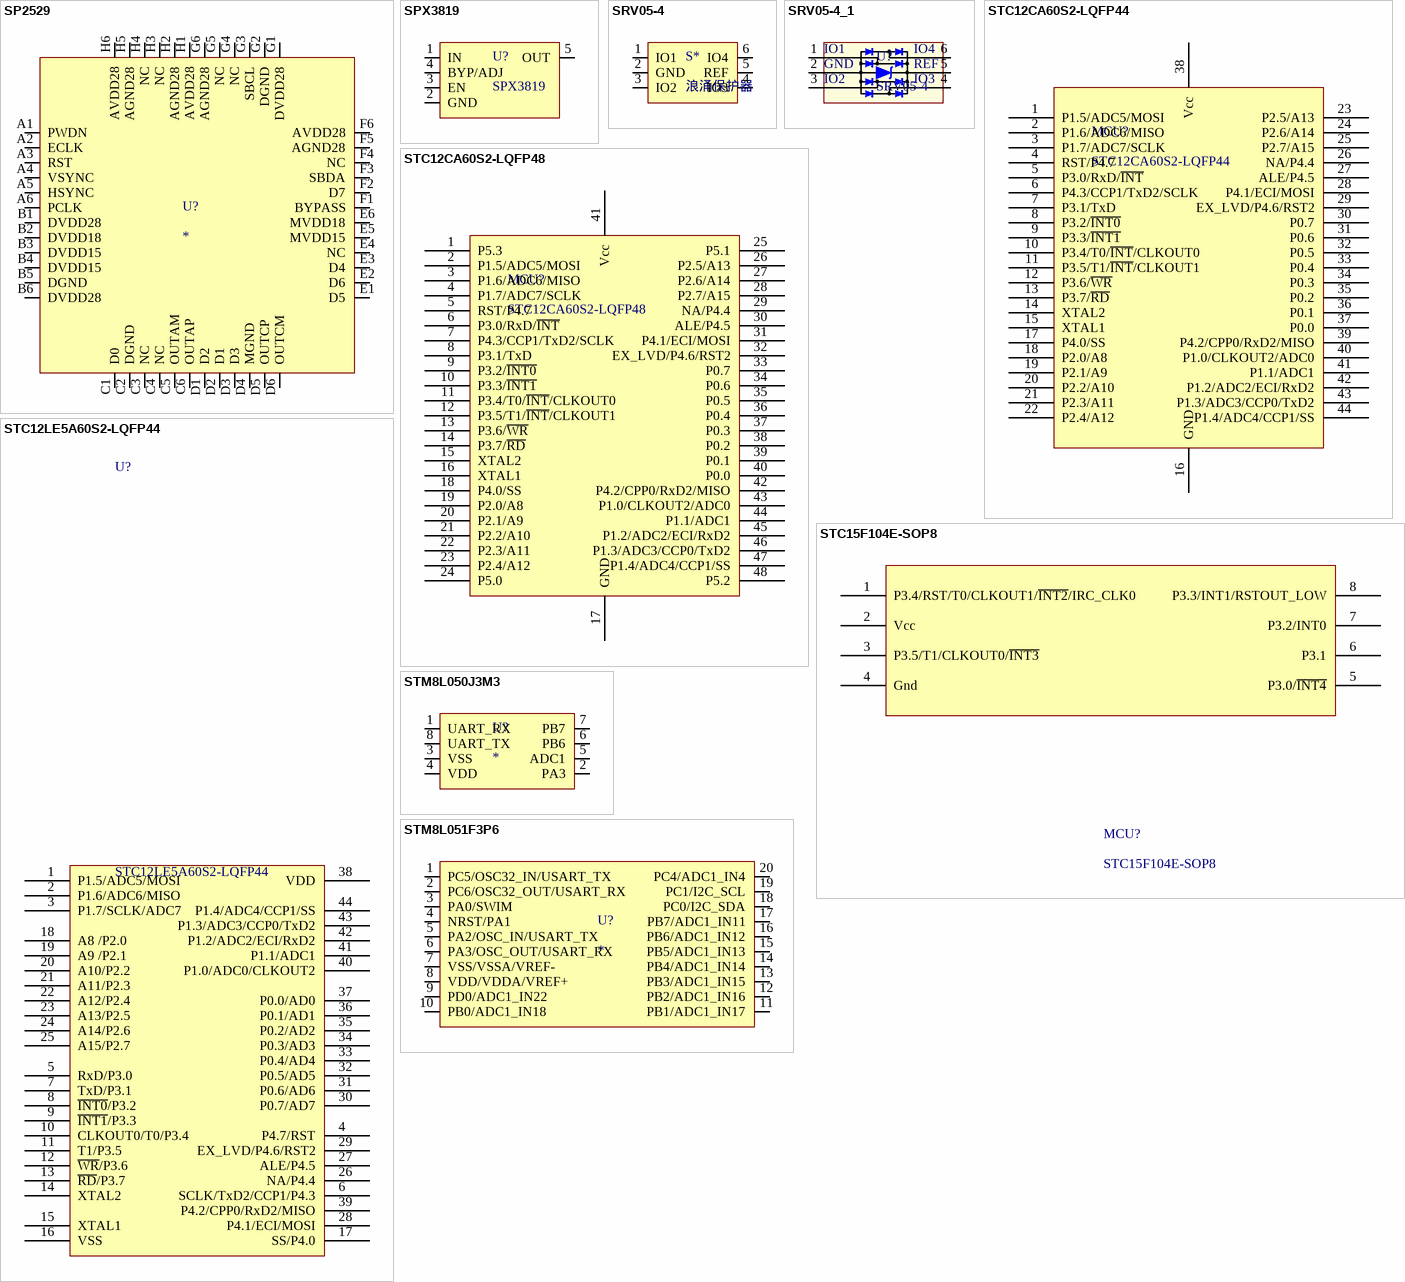
[diagram p23: symbols SP2529 to STM8L051F3P6]

## SP2529
designator U?
pins: A1 PWDN, A2 ECLK, A3 RST, A4 VSYNC, A5 HSYNC, A6 PCLK, B1 DVDD28, B2 DVDD18, B3 DVDD15, B4 DVDD15, B5 DGND, B6 DVDD28, C1 D0, C2 DGND, C3 NC, C4 NC, C5 OUTAM, C6 OUTAP, D1 D2, D2 D1, D3, D4 MGND, D5 OUTCP, D6 OUTCM, E1 D5, E2 D6, E3 D4, E4 NC, E5 MVDD15, E6 MVDD18, F1 BYPASS, F2 D7, F3 SBDA, F4 NC, F5 AGND28, F6 AVDD28, G1 DVDD28, G2 DGND, G3 SBCL, G4 NC, G5 NC, G6 AGND28, H1 AVDD28, H2 AGND28, H3 NC, H4 NC, H5 AGND28, H6 AVDD28

## SPX3819
designator U?
500mA, Low-Noise LDO Voltage Regulator
footprint SOT23-5 (SOT-23/SC-74A; 5 Leads; Body 3 x 3 mm, inc. leads (LxW max))
pins: 1 IN, 2 GND, 3 EN, 4 BYP/ADJ, 5 OUT

## SRV05-4
designator S*, comment 浪涌保护器
footprint SOT-6L
pins: 1 IO1, 2 GND, 3 IO2, 4 IO3, 5 REF, 6 IO4

## SRV05-4_1
designator U?, comment SRV05-4
Low Capacitance(3pF) TVS Diode Array
footprint SOT23-6 (SOT-457/SC-74; 6 Leads; Body 3 x 3 mm, inc. leads (LxW max))
pins: 1, 2, 3, 4, 5, 6
text: IO1; IO4; GND; REF; IO2; IO3

## STC12CA60S2-LQFP44
designator MCU?
footprint STC12CA60S2-LQFP44
pins: 1 P1.5/ADC5/MOSI, 2 P1.6/ADC6/MISO, 3 P1.7/ADC7/SCLK, 4 RST/P4.7, 5 P3.0/RxD/~{INT}, 6 P4.3/CCP1/TxD2/SCLK, 7 P3.1/TxD, 8 P3.2/~{INT0}, 9 P3.3/~{INT1}, 10 P3.4/T0/~{INT}/CLKOUT0, 11 P3.5/T1/~{INT}/CLKOUT1, 12 P3.6/~{WR}, 13 P3.7/~{RD}, 14 XTAL2, 15 XTAL1, 16 GND, 17 P4.0/SS, 18 P2.0/A8, 19 P2.1/A9, 20 P2.2/A10, 21 P2.3/A11, 22 P2.4/A12, 23 P2.5/A13, 24 P2.6/A14, 25 P2.7/A15, 26 NA/P4.4, 27 ALE/P4.5, 28 P4.1/ECI/MOSI, 29 EX_LVD/P4.6/RST2, 30 P0.7, 31 P0.6, 32 P0.5, 33 P0.4, 34 P0.3, 35 P0.2, 36 P0.1, 37 P0.0, 38 Vcc, 39 P4.2/CPP0/RxD2/MISO, 40 P1.0/CLKOUT2/ADC0, 41 P1.1/ADC1, 42 P1.2/ADC2/ECI/RxD2, 43 P1.3/ADC3/CCP0/TxD2, 44 P1.4/ADC4/CCP1/SS

## STC12CA60S2-LQFP48
designator MCU?
footprint STC12CA60S2-LQFP48 (STC12CA60S2)
pins: 1 P5.3, 2 P1.5/ADC5/MOSI, 3 P1.6/ADC6/MISO, 4 P1.7/ADC7/SCLK, 5 RST/P4.7, 6 P3.0/RxD/~{INT}, 7 P4.3/CCP1/TxD2/SCLK, 8 P3.1/TxD, 9 P3.2/~{INT0}, 10 P3.3/~{INT1}, 11 P3.4/T0/~{INT}/CLKOUT0, 12 P3.5/T1/~{INT}/CLKOUT1, 13 P3.6/~{WR}, 14 P3.7/~{RD}, 15 XTAL2, 16 XTAL1, 17 GND, 18 P4.0/SS, 19 P2.0/A8, 20 P2.1/A9, 21 P2.2/A10, 22 P2.3/A11, 23 P2.4/A12, 24 P5.0, 25 P5.1, 26 P2.5/A13, 27 P2.6/A14, 28 P2.7/A15, 29 NA/P4.4, 30 ALE/P4.5, 31 P4.1/ECI/MOSI, 32 EX_LVD/P4.6/RST2, 33 P0.7, 34 P0.6, 35 P0.5, 36 P0.4, 37 P0.3, 38 P0.2, 39 P0.1, 40 P0.0, 41 Vcc, 42 P4.2/CPP0/RxD2/MISO, 43 P1.0/CLKOUT2/ADC0, 44 P1.1/ADC1, 45 P1.2/ADC2/ECI/RxD2, 46 P1.3/ADC3/CCP0/TxD2, 47 P1.4/ADC4/CCP1/SS, 48 P5.2

## STC12LE5A60S2-LQFP44
designator U?
footprint LQFP44_L (Thin QFP, 44-Leads, Body 10x10mm, Pitch 0.8mm, IPC High Density)
footprint LQFP44_M (Thin QFP, 44-Leads, Body 10x10mm, Pitch 0.8mm, IPC Low Density)
footprint LQFP44_N (Thin QFP, 44-Leads, Body 10x10mm, Pitch 0.8mm, IPC Medium Density)
pins: 1 P1.5/ADC5/MOSI, 2 P1.6/ADC6/MISO, 3 P1.7/SCLK/ADC7, 4 P4.7/RST, 5 RxD/P3.0, 6 SCLK/TxD2/CCP1/P4.3, 7 TxD/P3.1, 8 ~{INT0}/P3.2, 9 ~{INT1}/P3.3, 10 CLKOUT0/T0/P3.4, 11 T1/P3.5, 12 ~{WR}/P3.6, 13 ~{RD}/P3.7, 14 XTAL2, 15 XTAL1, 16 VSS, 17 SS/P4.0, 18 A8 /P2.0, 19 A9 /P2.1, 20 A10/P2.2, 21 A11/P2.3, 22 A12/P2.4, 23 A13/P2.5, 24 A14/P2.6, 25 A15/P2.7, 26 NA/P4.4, 27 ALE/P4.5, 28 P4.1/ECI/MOSI, 29 EX_LVD/P4.6/RST2, 30 P0.7/AD7, 31 P0.6/AD6, 32 P0.5/AD5, 33 P0.4/AD4, 34 P0.3/AD3, 35 P0.2/AD2, 36 P0.1/AD1, 37 P0.0/AD0, 38 VDD, 39 P4.2/CPP0/RxD2/MISO, 40 P1.0/ADC0/CLKOUT2, 41 P1.1/ADC1, 42 P1.2/ADC2/ECI/RxD2, 43 P1.3/ADC3/CCP0/TxD2, 44 P1.4/ADC4/CCP1/SS

## STC15F104E-SOP8
designator MCU?
footprint STC15F104E-SOP8
pins: 1 P3.4/RST/T0/CLKOUT1/~{INT2}/IRC_CLK0, 2 Vcc, 3 P3.5/T1/CLKOUT0/~{INT3}, 4 Gnd, 5 P3.0/~{INT4}, 6 P3.1, 7 P3.2/INT0, 8 P3.3/INT1/RSTOUT_LOW

## STM8L050J3M3
designator U?
footprint SOP-8_N (8-Pin Small Outline Integrated Circuit 1.27 mm Pitch, IPC Medium Density)
pins: 1 UART_RX, 2 PA3, 3 VSS, 4 VDD, 5 ADC1, 6 PB6, 7 PB7, 8 UART_TX

## STM8L051F3P6
designator U?
footprint tssop-20 (SSOP; 20 Leads; Body Width 3.9 mm; Pitch 0.64 mm)
pins: 1 PC5/OSC32_IN/USART_TX, 2 PC6/OSC32_OUT/USART_RX, 3 PA0/SWIM, 4 NRST/PA1, 5 PA2/OSC_IN/USART_TX, 6 PA3/OSC_OUT/USART_RX, 7 VSS/VSSA/VREF-, 8 VDD/VDDA/VREF+, 9 PD0/ADC1_IN22, 10 PB0/ADC1_IN18, 11 PB1/ADC1_IN17, 12 PB2/ADC1_IN16, 13 PB3/ADC1_IN15, 14 PB4/ADC1_IN14, 15 PB5/ADC1_IN13, 16 PB6/ADC1_IN12, 17 PB7/ADC1_IN11, 18 PC0/I2C_SDA, 19 PC1/I2C_SCL, 20 PC4/ADC1_IN4

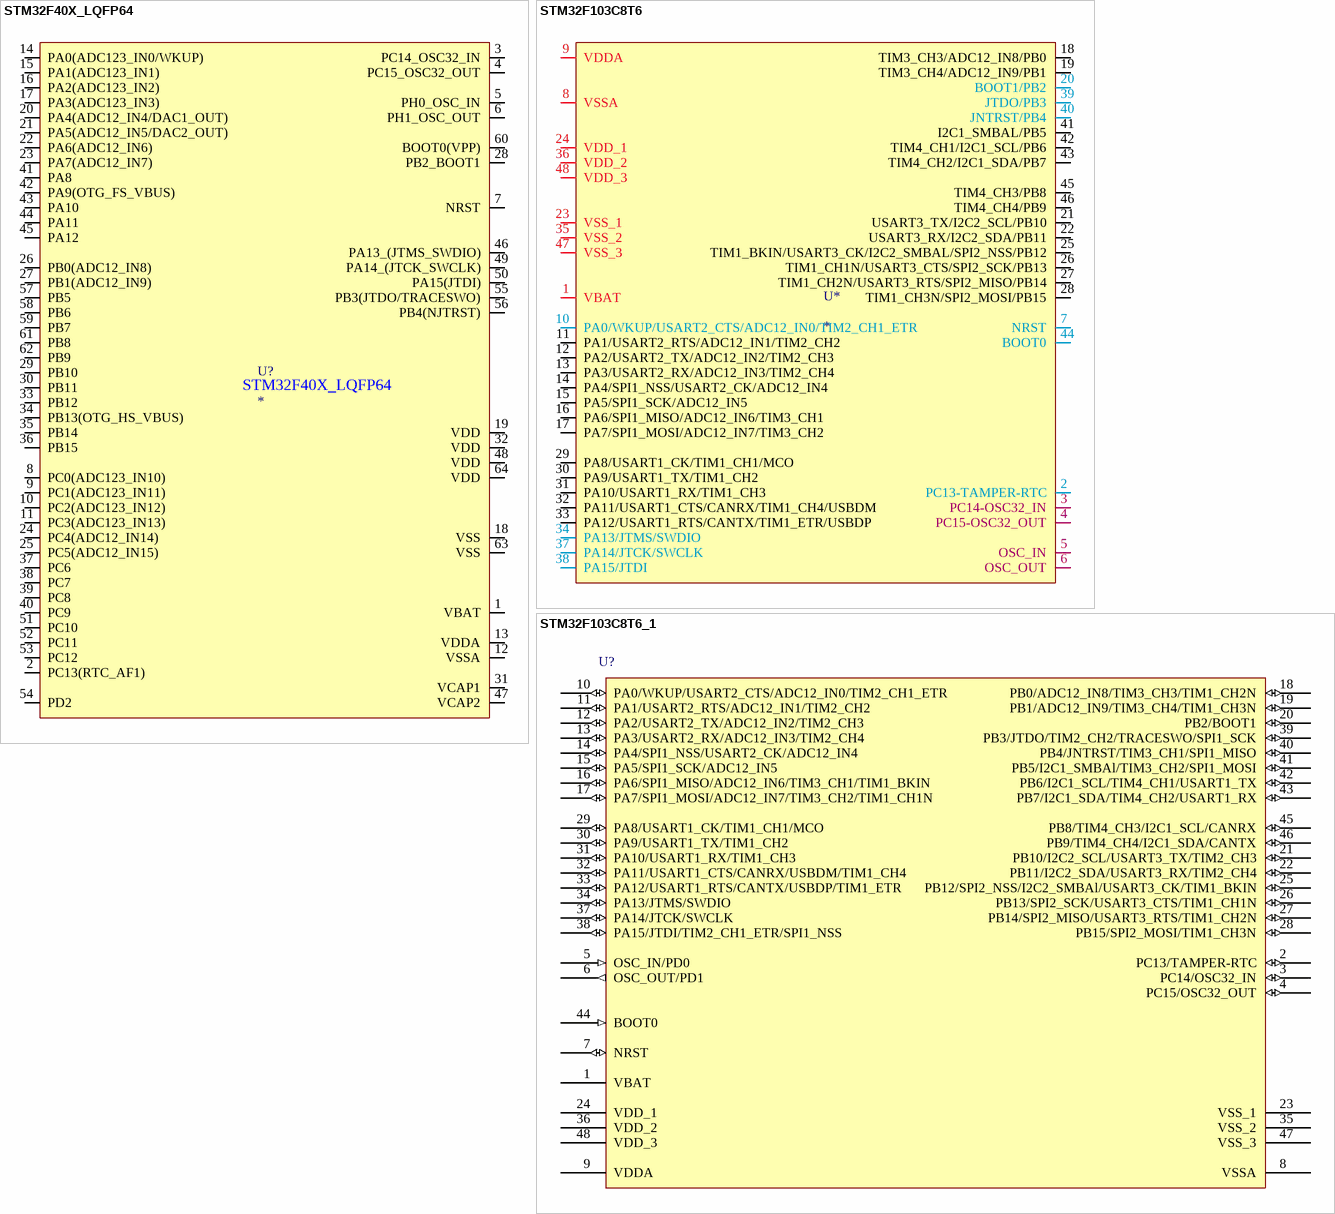
[diagram p24: symbols STM32F40X_LQFP64 to STM32F103C8T6_1]

## STM32F40X_LQFP64
designator U?
STM32F405/407
footprint LQFP64_M (Thin QFP, 64-Leads, Body 10x10mm, Pitch 0.5mm, IPC Low Density)
pins: 1 VBAT, 2 PC13(RTC_AF1), 3 PC14_OSC32_IN, 4 PC15_OSC32_OUT, 5 PH0_OSC_IN, 6 PH1_OSC_OUT, 7 NRST, 8 PC0(ADC123_IN10), 9 PC1(ADC123_IN11), 10 PC2(ADC123_IN12), 11 PC3(ADC123_IN13), 12 VSSA, 13 VDDA, 14 PA0(ADC123_IN0/WKUP), 15 PA1(ADC123_IN1), 16 PA2(ADC123_IN2), 17 PA3(ADC123_IN3), 18 VSS, 19 VDD, 20 PA4(ADC12_IN4/DAC1_OUT), 21 PA5(ADC12_IN5/DAC2_OUT), 22 PA6(ADC12_IN6), 23 PA7(ADC12_IN7), 24 PC4(ADC12_IN14), 25 PC5(ADC12_IN15), 26 PB0(ADC12_IN8), 27 PB1(ADC12_IN9), 28 PB2_BOOT1, 29 PB10, 30 PB11, 31 VCAP1, 32 VDD, 33 PB12, 34 PB13(OTG_HS_VBUS), 35 PB14, 36 PB15, 37 PC6, 38 PC7, 39 PC8, 40 PC9, 41 PA8, 42 PA9(OTG_FS_VBUS), 43 PA10, 44 PA11, 45 PA12, 46 PA13_(JTMS_SWDIO), 47 VCAP2, 48 VDD, 49 PA14_(JTCK_SWCLK), 50 PA15(JTDI), 51 PC10, 52 PC11, 53 PC12, 54 PD2, 55 PB3(JTDO/TRACESWO), 56 PB4(NJTRST), 57 PB5, 58 PB6, 59 PB7, 60 BOOT0(VPP), 61 PB8, 62 PB9, 63 VSS, 64 VDD

## STM32F103C8T6
designator U*
footprint LQFP-48 (Thin QFP, 48-Leads, Body 7x7mm, Pitch 0.5mm, IPC Medium Density)
pins: 1 VBAT, 2 PC13-TAMPER-RTC, 3 PC14-OSC32_IN, 4 PC15-OSC32_OUT, 5 OSC_IN, 6 OSC_OUT, 7 NRST, 8 VSSA, 9 VDDA, 10 PA0/WKUP/USART2_CTS/ADC12_IN0/TIM2_CH1_ETR, 11 PA1/USART2_RTS/ADC12_IN1/TIM2_CH2, 12 PA2/USART2_TX/ADC12_IN2/TIM2_CH3, 13 PA3/USART2_RX/ADC12_IN3/TIM2_CH4, 14 PA4/SPI1_NSS/USART2_CK/ADC12_IN4, 15 PA5/SPI1_SCK/ADC12_IN5, 16 PA6/SPI1_MISO/ADC12_IN6/TIM3_CH1, 17 PA7/SPI1_MOSI/ADC12_IN7/TIM3_CH2, 18 TIM3_CH3/ADC12_IN8/PB0, 19 TIM3_CH4/ADC12_IN9/PB1, 20 BOOT1/PB2, 21 USART3_TX/I2C2_SCL/PB10, 22 USART3_RX/I2C2_SDA/PB11, 23 VSS_1, 24 VDD_1, 25 TIM1_BKIN/USART3_CK/I2C2_SMBAL/SPI2_NSS/PB12, 26 TIM1_CH1N/USART3_CTS/SPI2_SCK/PB13, 27 TIM1_CH2N/USART3_RTS/SPI2_MISO/PB14, 28 TIM1_CH3N/SPI2_MOSI/PB15, 29 PA8/USART1_CK/TIM1_CH1/MCO, 30 PA9/USART1_TX/TIM1_CH2, 31 PA10/USART1_RX/TIM1_CH3, 32 PA11/USART1_CTS/CANRX/TIM1_CH4/USBDM, 33 PA12/USART1_RTS/CANTX/TIM1_ETR/USBDP, 34 PA13/JTMS/SWDIO, 35 VSS_2, 36 VDD_2, 37 PA14/JTCK/SWCLK, 38 PA15/JTDI, 39 JTDO/PB3, 40 JNTRST/PB4, 41 I2C1_SMBAL/PB5, 42 TIM4_CH1/I2C1_SCL/PB6, 43 TIM4_CH2/I2C1_SDA/PB7, 44 BOOT0, 45 TIM4_CH3/PB8, 46 TIM4_CH4/PB9, 47 VSS_3, 48 VDD_3

## STM32F103C8T6_1
designator U?
STM32 ARM-based 32-bit MCU with 64 Kbytes Flash, 48-pin LQFP, Industrial Temperature; Published: 30-May-2008; DatasheetVersion: rev6, Mar-2008; PackageVersion: Mar-2008; PackageReference: LQFP48; Publisher: Altium Limited; PackageDescription: 48-Pin Low-Profile Quad Flat Pack, 7 x 7 mm Body, 0.5 mm Pitch (LQFP48); ComponentLink1Description: Manufacturer Link; ComponentLink1URL: www.st.com/stm32; ComponentLink2Description: Datasheet; ComponentLink2URL: http://www.st.com/stonline/products/literature/ds/13587.pdf
footprint LQFP48_N (Thin QFP, 48-Leads, Body 7x7mm, Pitch 0.5mm, IPC Medium Density)
footprint LQFP48_L (Thin QFP, 48-Leads, Body 7x7mm, Pitch 0.5mm, IPC High Density)
footprint LQFP48_M (Thin QFP, 48-Leads, Body 7x7mm, Pitch 0.5mm, IPC Low Density)
pins: 1 VBAT (power), 2 PC13/TAMPER-RTC (io), 3 PC14/OSC32_IN (io), 4 PC15/OSC32_OUT (io), 5 OSC_IN/PD0 (in), 6 OSC_OUT/PD1 (out), 7 NRST (io), 8 VSSA (power), 9 VDDA (power), 10 PA0/WKUP/USART2_CTS/ADC12_IN0/TIM2_CH1_ETR (io), 11 PA1/USART2_RTS/ADC12_IN1/TIM2_CH2 (io), 12 PA2/USART2_TX/ADC12_IN2/TIM2_CH3 (io), 13 PA3/USART2_RX/ADC12_IN3/TIM2_CH4 (io), 14 PA4/SPI1_NSS/USART2_CK/ADC12_IN4 (io), 15 PA5/SPI1_SCK/ADC12_IN5 (io), 16 PA6/SPI1_MISO/ADC12_IN6/TIM3_CH1/TIM1_BKIN (io), 17 PA7/SPI1_MOSI/ADC12_IN7/TIM3_CH2/TIM1_CH1N (io), 18 PB0/ADC12_IN8/TIM3_CH3/TIM1_CH2N (io), 19 PB1/ADC12_IN9/TIM3_CH4/TIM1_CH3N (io), 20 PB2/BOOT1 (io), 21 PB10/I2C2_SCL/USART3_TX/TIM2_CH3 (io), 22 PB11/I2C2_SDA/USART3_RX/TIM2_CH4 (io), 23 VSS_1 (power), 24 VDD_1 (power), 25 PB12/SPI2_NSS/I2C2_SMBAl/USART3_CK/TIM1_BKIN (io), 26 PB13/SPI2_SCK/USART3_CTS/TIM1_CH1N (io), 27 PB14/SPI2_MISO/USART3_RTS/TIM1_CH2N (io), 28 PB15/SPI2_MOSI/TIM1_CH3N (io), 29 PA8/USART1_CK/TIM1_CH1/MCO (io), 30 PA9/USART1_TX/TIM1_CH2 (io), 31 PA10/USART1_RX/TIM1_CH3 (io), 32 PA11/USART1_CTS/CANRX/USBDM/TIM1_CH4 (io), 33 PA12/USART1_RTS/CANTX/USBDP/TIM1_ETR (io), 34 PA13/JTMS/SWDIO (io), 35 VSS_2 (power), 36 VDD_2 (power), 37 PA14/JTCK/SWCLK (io), 38 PA15/JTDI/TIM2_CH1_ETR/SPI1_NSS (io), 39 PB3/JTDO/TIM2_CH2/TRACESWO/SPI1_SCK (io), 40 PB4/JNTRST/TIM3_CH1/SPI1_MISO (io), 41 PB5/I2C1_SMBAl/TIM3_CH2/SPI1_MOSI (io), 42 PB6/I2C1_SCL/TIM4_CH1/USART1_TX (io), 43 PB7/I2C1_SDA/TIM4_CH2/USART1_RX (io), 44 BOOT0 (in), 45 PB8/TIM4_CH3/I2C1_SCL/CANRX (io), 46 PB9/TIM4_CH4/I2C1_SDA/CANTX (io), 47 VSS_3 (power), 48 VDD_3 (power)

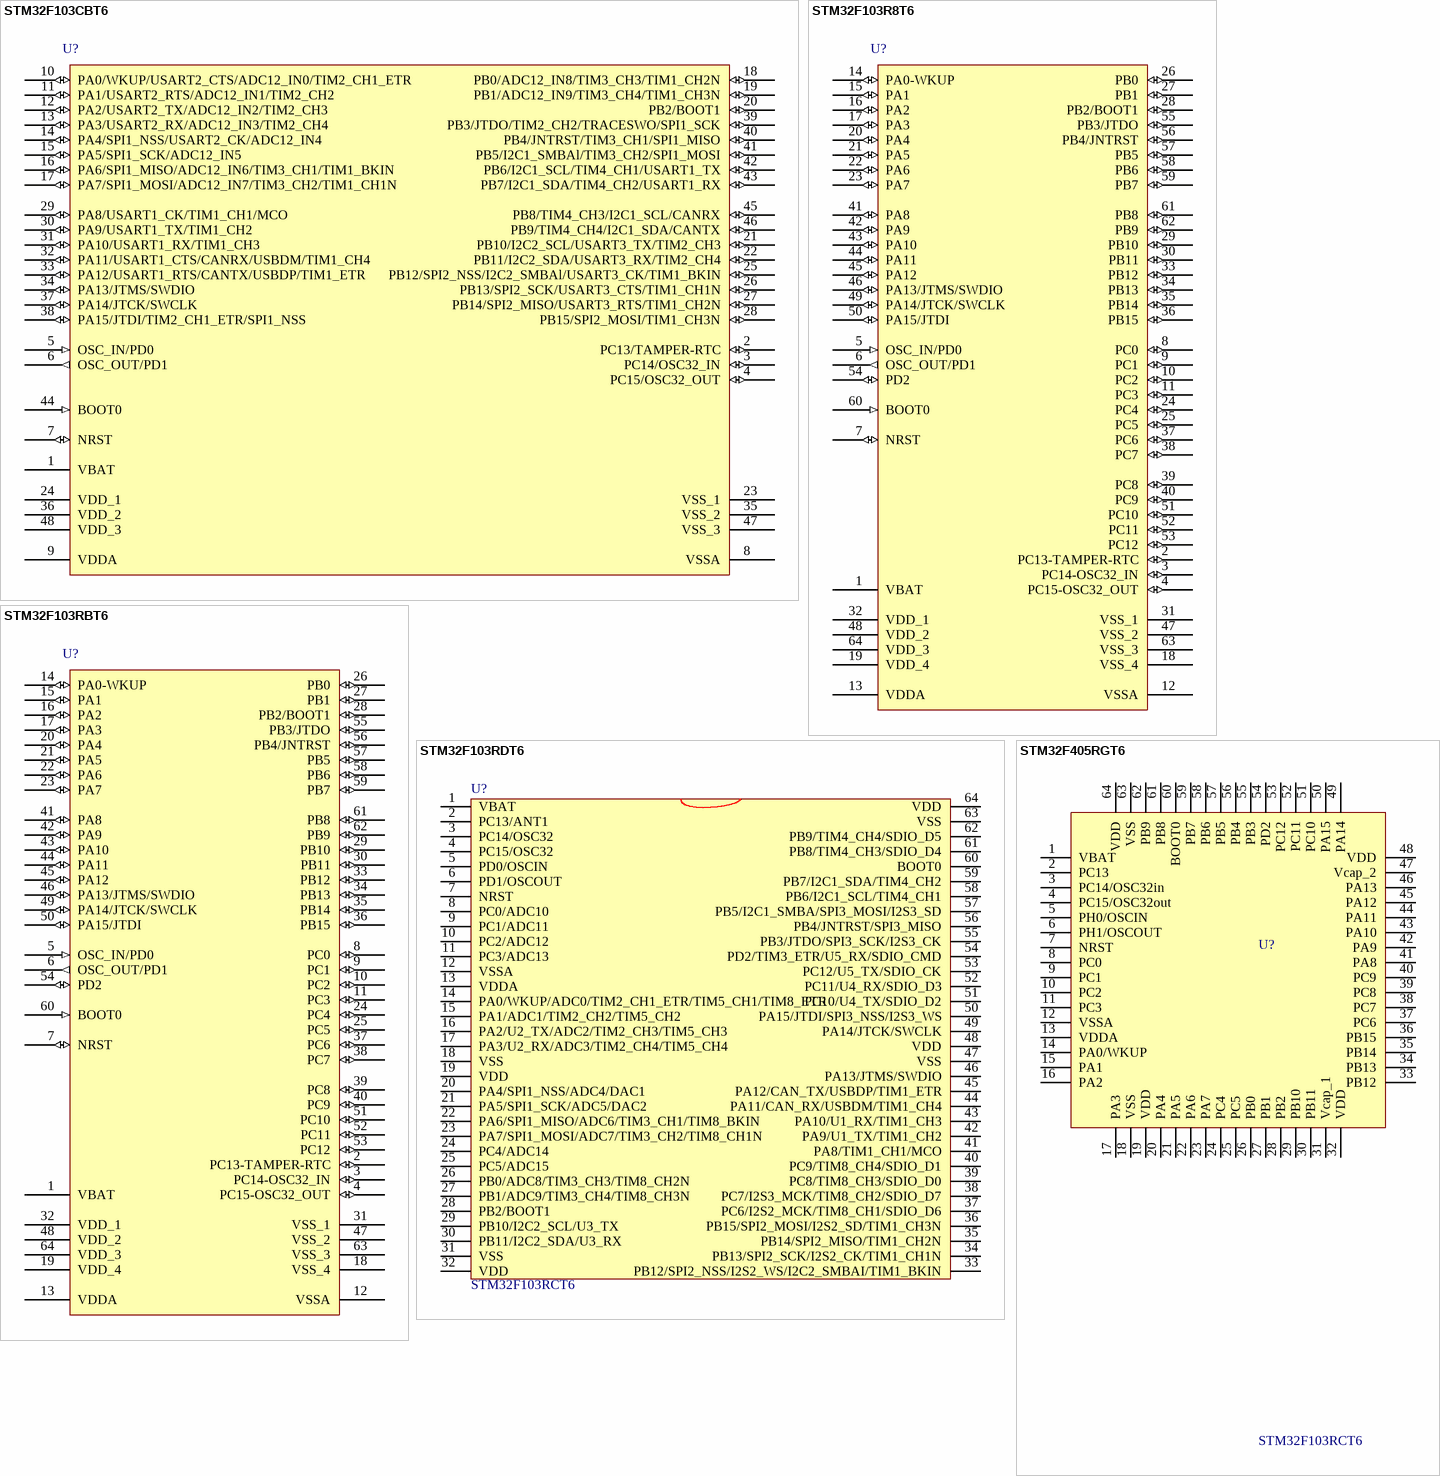
[diagram p25: symbols STM32F103CBT6 to STM32F405RGT6]

## STM32F103CBT6
designator U?
STM32 ARM-based 32-bit MCU with 128 Kbytes Flash, 48-pin LQFP, Industrial Temperature; Published: 30-May-2008; DatasheetVersion: rev6, Mar-2008; PackageVersion: Mar-2008; PackageReference: LQFP48; Publisher: Altium Limited; PackageDescription: 48-Pin Low-Profile Quad Flat Pack, 7 x 7 mm Body, 0.5 mm Pitch (LQFP48); ComponentLink1Description: Manufacturer Link; ComponentLink1URL: www.st.com/stm32; ComponentLink2Description: Datasheet; ComponentLink2URL: http://www.st.com/stonline/products/literature/ds/13587.pdf
footprint LQFP48_N (Thin QFP, 48-Leads, Body 7x7mm, Pitch 0.5mm, IPC Medium Density)
footprint LQFP48_L (Thin QFP, 48-Leads, Body 7x7mm, Pitch 0.5mm, IPC High Density)
footprint LQFP48_M (Thin QFP, 48-Leads, Body 7x7mm, Pitch 0.5mm, IPC Low Density)
pins: 1 VBAT (power), 2 PC13/TAMPER-RTC (io), 3 PC14/OSC32_IN (io), 4 PC15/OSC32_OUT (io), 5 OSC_IN/PD0 (in), 6 OSC_OUT/PD1 (out), 7 NRST (io), 8 VSSA (power), 9 VDDA (power), 10 PA0/WKUP/USART2_CTS/ADC12_IN0/TIM2_CH1_ETR (io), 11 PA1/USART2_RTS/ADC12_IN1/TIM2_CH2 (io), 12 PA2/USART2_TX/ADC12_IN2/TIM2_CH3 (io), 13 PA3/USART2_RX/ADC12_IN3/TIM2_CH4 (io), 14 PA4/SPI1_NSS/USART2_CK/ADC12_IN4 (io), 15 PA5/SPI1_SCK/ADC12_IN5 (io), 16 PA6/SPI1_MISO/ADC12_IN6/TIM3_CH1/TIM1_BKIN (io), 17 PA7/SPI1_MOSI/ADC12_IN7/TIM3_CH2/TIM1_CH1N (io), 18 PB0/ADC12_IN8/TIM3_CH3/TIM1_CH2N (io), 19 PB1/ADC12_IN9/TIM3_CH4/TIM1_CH3N (io), 20 PB2/BOOT1 (io), 21 PB10/I2C2_SCL/USART3_TX/TIM2_CH3 (io), 22 PB11/I2C2_SDA/USART3_RX/TIM2_CH4 (io), 23 VSS_1 (power), 24 VDD_1 (power), 25 PB12/SPI2_NSS/I2C2_SMBAl/USART3_CK/TIM1_BKIN (io), 26 PB13/SPI2_SCK/USART3_CTS/TIM1_CH1N (io), 27 PB14/SPI2_MISO/USART3_RTS/TIM1_CH2N (io), 28 PB15/SPI2_MOSI/TIM1_CH3N (io), 29 PA8/USART1_CK/TIM1_CH1/MCO (io), 30 PA9/USART1_TX/TIM1_CH2 (io), 31 PA10/USART1_RX/TIM1_CH3 (io), 32 PA11/USART1_CTS/CANRX/USBDM/TIM1_CH4 (io), 33 PA12/USART1_RTS/CANTX/USBDP/TIM1_ETR (io), 34 PA13/JTMS/SWDIO (io), 35 VSS_2 (power), 36 VDD_2 (power), 37 PA14/JTCK/SWCLK (io), 38 PA15/JTDI/TIM2_CH1_ETR/SPI1_NSS (io), 39 PB3/JTDO/TIM2_CH2/TRACESWO/SPI1_SCK (io), 40 PB4/JNTRST/TIM3_CH1/SPI1_MISO (io), 41 PB5/I2C1_SMBAl/TIM3_CH2/SPI1_MOSI (io), 42 PB6/I2C1_SCL/TIM4_CH1/USART1_TX (io), 43 PB7/I2C1_SDA/TIM4_CH2/USART1_RX (io), 44 BOOT0 (in), 45 PB8/TIM4_CH3/I2C1_SCL/CANRX (io), 46 PB9/TIM4_CH4/I2C1_SDA/CANTX (io), 47 VSS_3 (power), 48 VDD_3 (power)

## STM32F103R8T6
designator U?
STM32 ARM-based 32-bit MCU with 64 Kbytes Flash, 64-pin LQFP, Industrial Temperature; Published: 30-May-2008; DatasheetVersion: rev6, Mar-2008; PackageVersion: Mar-2008; PackageReference: LQFP64; Publisher: Altium Limited; PackageDescription: 64-Pin Low-Profile Quad Flat Pack, 10 x 10 mm Body, 0.5 mm Pitch (LQFP64); ComponentLink1Description: Manufacturer Link; ComponentLink1URL: www.st.com/stm32; ComponentLink2Description: Datasheet; ComponentLink2URL: http://www.st.com/stonline/products/literature/ds/13587.pdf
footprint LQFP64_N (Thin QFP, 64-Leads, Body 10x10mm, Pitch 0.5mm, IPC Medium Density)
footprint LQFP64_L (Thin QFP, 64-Leads, Body 10x10mm, Pitch 0.5mm, IPC High Density)
footprint LQFP64_M (Thin QFP, 64-Leads, Body 10x10mm, Pitch 0.5mm, IPC Low Density)
pins: 1 VBAT (power), 2 PC13-TAMPER-RTC (io), 3 PC14-OSC32_IN (io), 4 PC15-OSC32_OUT (io), 5 OSC_IN/PD0 (in), 6 OSC_OUT/PD1 (out), 7 NRST (io), 8 PC0 (io), 9 PC1 (io), 10 PC2 (io), 11 PC3 (io), 12 VSSA (power), 13 VDDA (power), 14 PA0-WKUP (io), 15 PA1 (io), 16 PA2 (io), 17 PA3 (io), 18 VSS_4 (power), 19 VDD_4 (power), 20 PA4 (io), 21 PA5 (io), 22 PA6 (io), 23 PA7 (io), 24 PC4 (io), 25 PC5 (io), 26 PB0 (io), 27 PB1 (io), 28 PB2/BOOT1 (io), 29 PB10 (io), 30 PB11 (io), 31 VSS_1 (power), 32 VDD_1 (power), 33 PB12 (io), 34 PB13 (io), 35 PB14 (io), 36 PB15 (io), 37 PC6 (io), 38 PC7 (io), 39 PC8 (io), 40 PC9 (io), 41 PA8 (io), 42 PA9 (io), 43 PA10 (io), 44 PA11 (io), 45 PA12 (io), 46 PA13/JTMS/SWDIO (io), 47 VSS_2 (power), 48 VDD_2 (power), 49 PA14/JTCK/SWCLK (io), 50 PA15/JTDI (io), 51 PC10 (io), 52 PC11 (io), 53 PC12 (io), 54 PD2 (io), 55 PB3/JTDO (io), 56 PB4/JNTRST (io), 57 PB5 (io), 58 PB6 (io), 59 PB7 (io), 60 BOOT0 (in), 61 PB8 (io), 62 PB9 (io), 63 VSS_3 (power), 64 VDD_3 (power)

## STM32F103RBT6
designator U?
STM32 ARM-based 32-bit MCU with 128 Kbytes Flash, 64-pin LQFP, Industrial Temperature; Published: 30-May-2008; DatasheetVersion: rev6, Mar-2008; PackageVersion: Mar-2008; PackageReference: LQFP64; Publisher: Altium Limited; PackageDescription: 64-Pin Low-Profile Quad Flat Pack, 10 x 10 mm Body, 0.5 mm Pitch (LQFP64); ComponentLink1Description: Manufacturer Link; ComponentLink1URL: www.st.com/stm32; ComponentLink2Description: Datasheet; ComponentLink2URL: http://www.st.com/stonline/products/literature/ds/13587.pdf
footprint LQFP64_N (Thin QFP, 64-Leads, Body 10x10mm, Pitch 0.5mm, IPC Medium Density)
footprint LQFP64_L (Thin QFP, 64-Leads, Body 10x10mm, Pitch 0.5mm, IPC High Density)
footprint LQFP64_M (Thin QFP, 64-Leads, Body 10x10mm, Pitch 0.5mm, IPC Low Density)
pins: 1 VBAT (power), 2 PC13-TAMPER-RTC (io), 3 PC14-OSC32_IN (io), 4 PC15-OSC32_OUT (io), 5 OSC_IN/PD0 (in), 6 OSC_OUT/PD1 (out), 7 NRST (io), 8 PC0 (io), 9 PC1 (io), 10 PC2 (io), 11 PC3 (io), 12 VSSA (power), 13 VDDA (power), 14 PA0-WKUP (io), 15 PA1 (io), 16 PA2 (io), 17 PA3 (io), 18 VSS_4 (power), 19 VDD_4 (power), 20 PA4 (io), 21 PA5 (io), 22 PA6 (io), 23 PA7 (io), 24 PC4 (io), 25 PC5 (io), 26 PB0 (io), 27 PB1 (io), 28 PB2/BOOT1 (io), 29 PB10 (io), 30 PB11 (io), 31 VSS_1 (power), 32 VDD_1 (power), 33 PB12 (io), 34 PB13 (io), 35 PB14 (io), 36 PB15 (io), 37 PC6 (io), 38 PC7 (io), 39 PC8 (io), 40 PC9 (io), 41 PA8 (io), 42 PA9 (io), 43 PA10 (io), 44 PA11 (io), 45 PA12 (io), 46 PA13/JTMS/SWDIO (io), 47 VSS_2 (power), 48 VDD_2 (power), 49 PA14/JTCK/SWCLK (io), 50 PA15/JTDI (io), 51 PC10 (io), 52 PC11 (io), 53 PC12 (io), 54 PD2 (io), 55 PB3/JTDO (io), 56 PB4/JNTRST (io), 57 PB5 (io), 58 PB6 (io), 59 PB7 (io), 60 BOOT0 (in), 61 PB8 (io), 62 PB9 (io), 63 VSS_3 (power), 64 VDD_3 (power)

## STM32F103RDT6
designator U?, comment STM32F103RCT6
footprint LQFP64
pins: 1 VBAT, 2 PC13/ANT1, 3 PC14/OSC32, 4 PC15/OSC32, 5 PD0/OSCIN, 6 PD1/OSCOUT, 7 NRST, 8 PC0/ADC10, 9 PC1/ADC11, 10 PC2/ADC12, 11 PC3/ADC13, 12 VSSA, 13 VDDA, 14 PA0/WKUP/ADC0/TIM2_CH1_ETR/TIM5_CH1/TIM8_ETR, 15 PA1/ADC1/TIM2_CH2/TIM5_CH2, 16 PA2/U2_TX/ADC2/TIM2_CH3/TIM5_CH3, 17 PA3/U2_RX/ADC3/TIM2_CH4/TIM5_CH4, 18 VSS, 19 VDD, 20 PA4/SPI1_NSS/ADC4/DAC1, 21 PA5/SPI1_SCK/ADC5/DAC2, 22 PA6/SPI1_MISO/ADC6/TIM3_CH1/TIM8_BKIN, 23 PA7/SPI1_MOSI/ADC7/TIM3_CH2/TIM8_CH1N, 24 PC4/ADC14, 25 PC5/ADC15, 26 PB0/ADC8/TIM3_CH3/TIM8_CH2N, 27 PB1/ADC9/TIM3_CH4/TIM8_CH3N, 28 PB2/BOOT1, 29 PB10/I2C2_SCL/U3_TX, 30 PB11/I2C2_SDA/U3_RX, 31 VSS, 32 VDD, 33 PB12/SPI2_NSS/I2S2_WS/I2C2_SMBAI/TIM1_BKIN, 34 PB13/SPI2_SCK/I2S2_CK/TIM1_CH1N, 35 PB14/SPI2_MISO/TIM1_CH2N, 36 PB15/SPI2_MOSI/I2S2_SD/TIM1_CH3N, 37 PC6/I2S2_MCK/TIM8_CH1/SDIO_D6, 38 PC7/I2S3_MCK/TIM8_CH2/SDIO_D7, 39 PC8/TIM8_CH3/SDIO_D0, 40 PC9/TIM8_CH4/SDIO_D1, 41 PA8/TIM1_CH1/MCO, 42 PA9/U1_TX/TIM1_CH2, 43 PA10/U1_RX/TIM1_CH3, 44 PA11/CAN_RX/USBDM/TIM1_CH4, 45 PA12/CAN_TX/USBDP/TIM1_ETR, 46 PA13/JTMS/SWDIO, 47 VSS, 48 VDD, 49 PA14/JTCK/SWCLK, 50 PA15/JTDI/SPI3_NSS/I2S3_WS, 51 PC10/U4_TX/SDIO_D2, 52 PC11/U4_RX/SDIO_D3, 53 PC12/U5_TX/SDIO_CK, 54 PD2/TIM3_ETR/U5_RX/SDIO_CMD, 55 PB3/JTDO/SPI3_SCK/I2S3_CK, 56 PB4/JNTRST/SPI3_MISO, 57 PB5/I2C1_SMBA/SPI3_MOSI/I2S3_SD, 58 PB6/I2C1_SCL/TIM4_CH1, 59 PB7/I2C1_SDA/TIM4_CH2, 60 BOOT0, 61 PB8/TIM4_CH3/SDIO_D4, 62 PB9/TIM4_CH4/SDIO_D5, 63 VSS, 64 VDD

## STM32F405RGT6
designator U?, comment STM32F103RCT6
footprint LQFP64
pins: 1 VBAT, 2 PC13, 3 PC14/OSC32in, 4 PC15/OSC32out, 5 PH0/OSCIN, 6 PH1/OSCOUT, 7 NRST, 8 PC0, 9 PC1, 10 PC2, 11 PC3, 12 VSSA, 13 VDDA, 14 PA0/WKUP, 15 PA1, 16 PA2, 17 PA3, 18 VSS, 19 VDD, 20 PA4, 21 PA5, 22 PA6, 23 PA7, 24 PC4, 25 PC5, 26 PB0, 27 PB1, 28 PB2, 29 PB10, 30 PB11, 31 Vcap_1, 32 VDD, 33 PB12, 34 PB13, 35 PB14, 36 PB15, 37 PC6, 38 PC7, 39 PC8, 40 PC9, 41 PA8, 42 PA9, 43 PA10, 44 PA11, 45 PA12, 46 PA13, 47 Vcap_2, 48 VDD, 49 PA14, 50 PA15, 51 PC10, 52 PC11, 53 PC12, 54 PD2, 55 PB3, 56 PB4, 57 PB5, 58 PB6, 59 PB7, 60 BOOT0, 61 PB8, 62 PB9, 63 VSS, 64 VDD

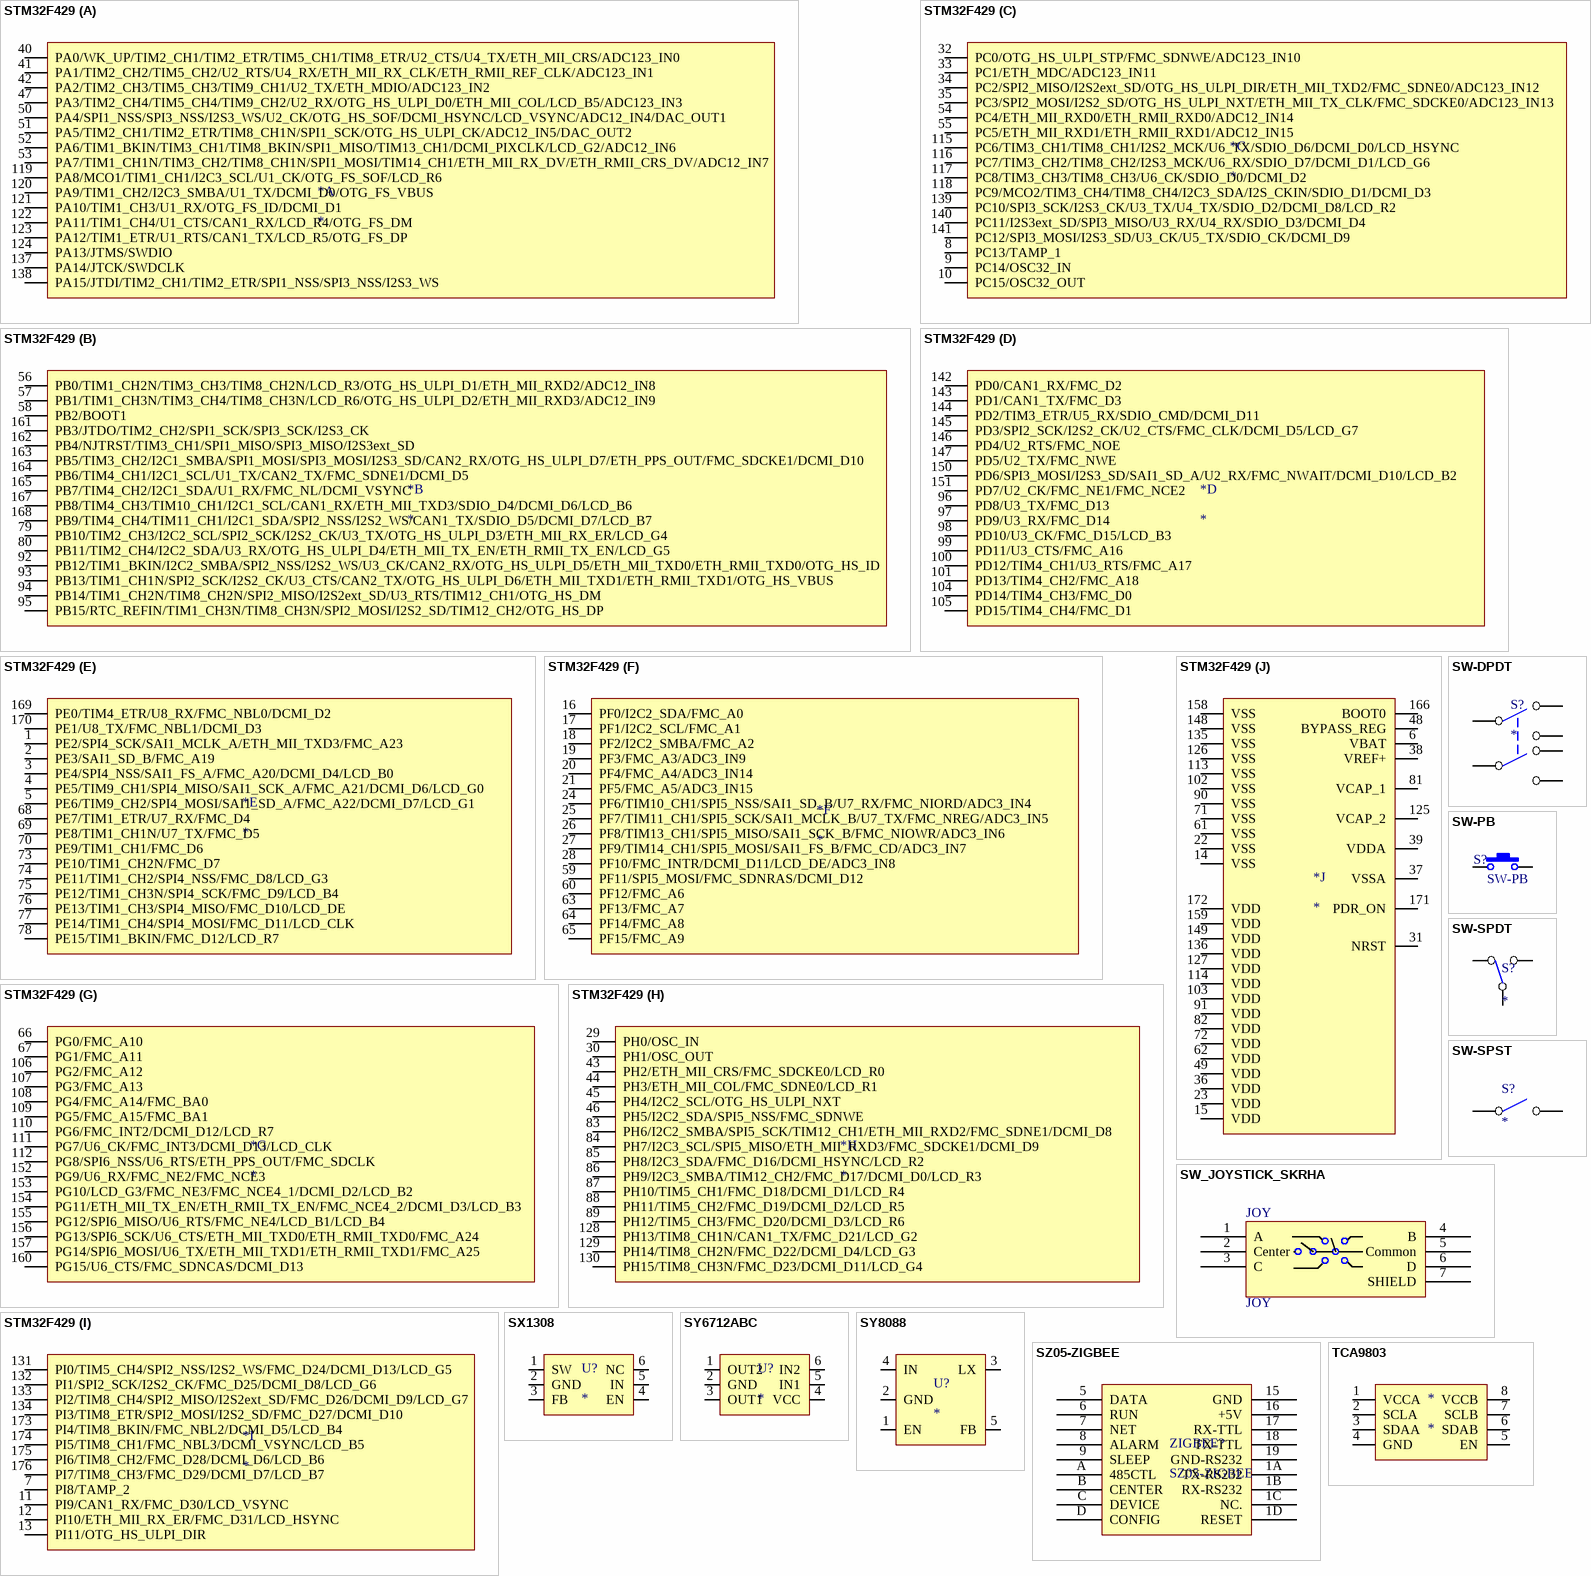
[diagram p26: symbols STM32F429 to TCA9803]

## STM32F429
designator *
footprint LQFP176
part A pins: 40 PA0/WK_UP/TIM2_CH1/TIM2_ETR/TIM5_CH1/TIM8_ETR/U2_CTS/U4_TX/ETH_MII_CRS/ADC123_IN0, 41 PA1/TIM2_CH2/TIM5_CH2/U2_RTS/U4_RX/ETH_MII_RX_CLK/ETH_RMII_REF_CLK/ADC123_IN1, 42 PA2/TIM2_CH3/TIM5_CH3/TIM9_CH1/U2_TX/ETH_MDIO/ADC123_IN2, 47 PA3/TIM2_CH4/TIM5_CH4/TIM9_CH2/U2_RX/OTG_HS_ULPI_D0/ETH_MII_COL/LCD_B5/ADC123_IN3, 50 PA4/SPI1_NSS/SPI3_NSS/I2S3_WS/U2_CK/OTG_HS_SOF/DCMI_HSYNC/LCD_VSYNC/ADC12_IN4/DAC_OUT1, 51 PA5/TIM2_CH1/TIM2_ETR/TIM8_CH1N/SPI1_SCK/OTG_HS_ULPI_CK/ADC12_IN5/DAC_OUT2, 52 PA6/TIM1_BKIN/TIM3_CH1/TIM8_BKIN/SPI1_MISO/TIM13_CH1/DCMI_PIXCLK/LCD_G2/ADC12_IN6, 53 PA7/TIM1_CH1N/TIM3_CH2/TIM8_CH1N/SPI1_MOSI/TIM14_CH1/ETH_MII_RX_DV/ETH_RMII_CRS_DV/ADC12_IN7, 119 PA8/MCO1/TIM1_CH1/I2C3_SCL/U1_CK/OTG_FS_SOF/LCD_R6, 120 PA9/TIM1_CH2/I2C3_SMBA/U1_TX/DCMI_D0/OTG_FS_VBUS, 121 PA10/TIM1_CH3/U1_RX/OTG_FS_ID/DCMI_D1, 122 PA11/TIM1_CH4/U1_CTS/CAN1_RX/LCD_R4/OTG_FS_DM, 123 PA12/TIM1_ETR/U1_RTS/CAN1_TX/LCD_R5/OTG_FS_DP, 124 PA13/JTMS/SWDIO, 137 PA14/JTCK/SWDCLK, 138 PA15/JTDI/TIM2_CH1/TIM2_ETR/SPI1_NSS/SPI3_NSS/I2S3_WS
part B pins: 56 PB0/TIM1_CH2N/TIM3_CH3/TIM8_CH2N/LCD_R3/OTG_HS_ULPI_D1/ETH_MII_RXD2/ADC12_IN8, 57 PB1/TIM1_CH3N/TIM3_CH4/TIM8_CH3N/LCD_R6/OTG_HS_ULPI_D2/ETH_MII_RXD3/ADC12_IN9, 58 PB2/BOOT1, 79 PB10/TIM2_CH3/I2C2_SCL/SPI2_SCK/I2S2_CK/U3_TX/OTG_HS_ULPI_D3/ETH_MII_RX_ER/LCD_G4, 80 PB11/TIM2_CH4/I2C2_SDA/U3_RX/OTG_HS_ULPI_D4/ETH_MII_TX_EN/ETH_RMII_TX_EN/LCD_G5, 92 PB12/TIM1_BKIN/I2C2_SMBA/SPI2_NSS/I2S2_WS/U3_CK/CAN2_RX/OTG_HS_ULPI_D5/ETH_MII_TXD0/ETH_RMII_TXD0/OTG_HS_ID, 93 PB13/TIM1_CH1N/SPI2_SCK/I2S2_CK/U3_CTS/CAN2_TX/OTG_HS_ULPI_D6/ETH_MII_TXD1/ETH_RMII_TXD1/OTG_HS_VBUS, 94 PB14/TIM1_CH2N/TIM8_CH2N/SPI2_MISO/I2S2ext_SD/U3_RTS/TIM12_CH1/OTG_HS_DM, 95 PB15/RTC_REFIN/TIM1_CH3N/TIM8_CH3N/SPI2_MOSI/I2S2_SD/TIM12_CH2/OTG_HS_DP, 161 PB3/JTDO/TIM2_CH2/SPI1_SCK/SPI3_SCK/I2S3_CK, 162 PB4/NJTRST/TIM3_CH1/SPI1_MISO/SPI3_MISO/I2S3ext_SD, 163 PB5/TIM3_CH2/I2C1_SMBA/SPI1_MOSI/SPI3_MOSI/I2S3_SD/CAN2_RX/OTG_HS_ULPI_D7/ETH_PPS_OUT/FMC_SDCKE1/DCMI_D10, 164 PB6/TIM4_CH1/I2C1_SCL/U1_TX/CAN2_TX/FMC_SDNE1/DCMI_D5, 165 PB7/TIM4_CH2/I2C1_SDA/U1_RX/FMC_NL/DCMI_VSYNC, 167 PB8/TIM4_CH3/TIM10_CH1/I2C1_SCL/CAN1_RX/ETH_MII_TXD3/SDIO_D4/DCMI_D6/LCD_B6, 168 PB9/TIM4_CH4/TIM11_CH1/I2C1_SDA/SPI2_NSS/I2S2_WS/CAN1_TX/SDIO_D5/DCMI_D7/LCD_B7
part C pins: 8 PC13/TAMP_1, 9 PC14/OSC32_IN, 10 PC15/OSC32_OUT, 32 PC0/OTG_HS_ULPI_STP/FMC_SDNWE/ADC123_IN10, 33 PC1/ETH_MDC/ADC123_IN11, 34 PC2/SPI2_MISO/I2S2ext_SD/OTG_HS_ULPI_DIR/ETH_MII_TXD2/FMC_SDNE0/ADC123_IN12, 35 PC3/SPI2_MOSI/I2S2_SD/OTG_HS_ULPI_NXT/ETH_MII_TX_CLK/FMC_SDCKE0/ADC123_IN13, 54 PC4/ETH_MII_RXD0/ETH_RMII_RXD0/ADC12_IN14, 55 PC5/ETH_MII_RXD1/ETH_RMII_RXD1/ADC12_IN15, 115 PC6/TIM3_CH1/TIM8_CH1/I2S2_MCK/U6_TX/SDIO_D6/DCMI_D0/LCD_HSYNC, 116 PC7/TIM3_CH2/TIM8_CH2/I2S3_MCK/U6_RX/SDIO_D7/DCMI_D1/LCD_G6, 117 PC8/TIM3_CH3/TIM8_CH3/U6_CK/SDIO_D0/DCMI_D2, 118 PC9/MCO2/TIM3_CH4/TIM8_CH4/I2C3_SDA/I2S_CKIN/SDIO_D1/DCMI_D3, 139 PC10/SPI3_SCK/I2S3_CK/U3_TX/U4_TX/SDIO_D2/DCMI_D8/LCD_R2, 140 PC11/I2S3ext_SD/SPI3_MISO/U3_RX/U4_RX/SDIO_D3/DCMI_D4, 141 PC12/SPI3_MOSI/I2S3_SD/U3_CK/U5_TX/SDIO_CK/DCMI_D9
part D pins: 96 PD8/U3_TX/FMC_D13, 97 PD9/U3_RX/FMC_D14, 98 PD10/U3_CK/FMC_D15/LCD_B3, 99 PD11/U3_CTS/FMC_A16, 100 PD12/TIM4_CH1/U3_RTS/FMC_A17, 101 PD13/TIM4_CH2/FMC_A18, 104 PD14/TIM4_CH3/FMC_D0, 105 PD15/TIM4_CH4/FMC_D1, 142 PD0/CAN1_RX/FMC_D2, 143 PD1/CAN1_TX/FMC_D3, 144 PD2/TIM3_ETR/U5_RX/SDIO_CMD/DCMI_D11, 145 PD3/SPI2_SCK/I2S2_CK/U2_CTS/FMC_CLK/DCMI_D5/LCD_G7, 146 PD4/U2_RTS/FMC_NOE, 147 PD5/U2_TX/FMC_NWE, 150 PD6/SPI3_MOSI/I2S3_SD/SAI1_SD_A/U2_RX/FMC_NWAIT/DCMI_D10/LCD_B2, 151 PD7/U2_CK/FMC_NE1/FMC_NCE2
part E pins: 1 PE2/SPI4_SCK/SAI1_MCLK_A/ETH_MII_TXD3/FMC_A23, 2 PE3/SAI1_SD_B/FMC_A19, 3 PE4/SPI4_NSS/SAI1_FS_A/FMC_A20/DCMI_D4/LCD_B0, 4 PE5/TIM9_CH1/SPI4_MISO/SAI1_SCK_A/FMC_A21/DCMI_D6/LCD_G0, 5 PE6/TIM9_CH2/SPI4_MOSI/SAI1_SD_A/FMC_A22/DCMI_D7/LCD_G1, 68 PE7/TIM1_ETR/U7_RX/FMC_D4, 69 PE8/TIM1_CH1N/U7_TX/FMC_D5, 70 PE9/TIM1_CH1/FMC_D6, 73 PE10/TIM1_CH2N/FMC_D7, 74 PE11/TIM1_CH2/SPI4_NSS/FMC_D8/LCD_G3, 75 PE12/TIM1_CH3N/SPI4_SCK/FMC_D9/LCD_B4, 76 PE13/TIM1_CH3/SPI4_MISO/FMC_D10/LCD_DE, 77 PE14/TIM1_CH4/SPI4_MOSI/FMC_D11/LCD_CLK, 78 PE15/TIM1_BKIN/FMC_D12/LCD_R7, 169 PE0/TIM4_ETR/U8_RX/FMC_NBL0/DCMI_D2, 170 PE1/U8_TX/FMC_NBL1/DCMI_D3
part F pins: 16 PF0/I2C2_SDA/FMC_A0, 17 PF1/I2C2_SCL/FMC_A1, 18 PF2/I2C2_SMBA/FMC_A2, 19 PF3/FMC_A3/ADC3_IN9, 20 PF4/FMC_A4/ADC3_IN14, 21 PF5/FMC_A5/ADC3_IN15, 24 PF6/TIM10_CH1/SPI5_NSS/SAI1_SD_B/U7_RX/FMC_NIORD/ADC3_IN4, 25 PF7/TIM11_CH1/SPI5_SCK/SAI1_MCLK_B/U7_TX/FMC_NREG/ADC3_IN5, 26 PF8/TIM13_CH1/SPI5_MISO/SAI1_SCK_B/FMC_NIOWR/ADC3_IN6, 27 PF9/TIM14_CH1/SPI5_MOSI/SAI1_FS_B/FMC_CD/ADC3_IN7, 28 PF10/FMC_INTR/DCMI_D11/LCD_DE/ADC3_IN8, 59 PF11/SPI5_MOSI/FMC_SDNRAS/DCMI_D12, 60 PF12/FMC_A6, 63 PF13/FMC_A7, 64 PF14/FMC_A8, 65 PF15/FMC_A9
part G pins: 66 PG0/FMC_A10, 67 PG1/FMC_A11, 106 PG2/FMC_A12, 107 PG3/FMC_A13, 108 PG4/FMC_A14/FMC_BA0, 109 PG5/FMC_A15/FMC_BA1, 110 PG6/FMC_INT2/DCMI_D12/LCD_R7, 111 PG7/U6_CK/FMC_INT3/DCMI_D13/LCD_CLK, 112 PG8/SPI6_NSS/U6_RTS/ETH_PPS_OUT/FMC_SDCLK, 152 PG9/U6_RX/FMC_NE2/FMC_NCE3, 153 PG10/LCD_G3/FMC_NE3/FMC_NCE4_1/DCMI_D2/LCD_B2, 154 PG11/ETH_MII_TX_EN/ETH_RMII_TX_EN/FMC_NCE4_2/DCMI_D3/LCD_B3, 155 PG12/SPI6_MISO/U6_RTS/FMC_NE4/LCD_B1/LCD_B4, 156 PG13/SPI6_SCK/U6_CTS/ETH_MII_TXD0/ETH_RMII_TXD0/FMC_A24, 157 PG14/SPI6_MOSI/U6_TX/ETH_MII_TXD1/ETH_RMII_TXD1/FMC_A25, 160 PG15/U6_CTS/FMC_SDNCAS/DCMI_D13
part H pins: 29 PH0/OSC_IN, 30 PH1/OSC_OUT, 43 PH2/ETH_MII_CRS/FMC_SDCKE0/LCD_R0, 44 PH3/ETH_MII_COL/FMC_SDNE0/LCD_R1, 45 PH4/I2C2_SCL/OTG_HS_ULPI_NXT, 46 PH5/I2C2_SDA/SPI5_NSS/FMC_SDNWE, 83 PH6/I2C2_SMBA/SPI5_SCK/TIM12_CH1/ETH_MII_RXD2/FMC_SDNE1/DCMI_D8, 84 PH7/I2C3_SCL/SPI5_MISO/ETH_MII_RXD3/FMC_SDCKE1/DCMI_D9, 85 PH8/I2C3_SDA/FMC_D16/DCMI_HSYNC/LCD_R2, 86 PH9/I2C3_SMBA/TIM12_CH2/FMC_D17/DCMI_D0/LCD_R3, 87 PH10/TIM5_CH1/FMC_D18/DCMI_D1/LCD_R4, 88 PH11/TIM5_CH2/FMC_D19/DCMI_D2/LCD_R5, 89 PH12/TIM5_CH3/FMC_D20/DCMI_D3/LCD_R6, 128 PH13/TIM8_CH1N/CAN1_TX/FMC_D21/LCD_G2, 129 PH14/TIM8_CH2N/FMC_D22/DCMI_D4/LCD_G3, 130 PH15/TIM8_CH3N/FMC_D23/DCMI_D11/LCD_G4
part I pins: 7 PI8/TAMP_2, 11 PI9/CAN1_RX/FMC_D30/LCD_VSYNC, 12 PI10/ETH_MII_RX_ER/FMC_D31/LCD_HSYNC, 13 PI11/OTG_HS_ULPI_DIR, 131 PI0/TIM5_CH4/SPI2_NSS/I2S2_WS/FMC_D24/DCMI_D13/LCD_G5, 132 PI1/SPI2_SCK/I2S2_CK/FMC_D25/DCMI_D8/LCD_G6, 133 PI2/TIM8_CH4/SPI2_MISO/I2S2ext_SD/FMC_D26/DCMI_D9/LCD_G7, 134 PI3/TIM8_ETR/SPI2_MOSI/I2S2_SD/FMC_D27/DCMI_D10, 173 PI4/TIM8_BKIN/FMC_NBL2/DCMI_D5/LCD_B4, 174 PI5/TIM8_CH1/FMC_NBL3/DCMI_VSYNC/LCD_B5, 175 PI6/TIM8_CH2/FMC_D28/DCMI_D6/LCD_B6, 176 PI7/TIM8_CH3/FMC_D29/DCMI_D7/LCD_B7
part J pins: 6 VBAT, 14 VSS, 15 VDD, 22 VSS, 23 VDD, 31 NRST, 36 VDD, 37 VSSA, 38 VREF+, 39 VDDA, 48 BYPASS_REG, 49 VDD, 61 VSS, 62 VDD, 71 VSS, 72 VDD, 81 VCAP_1, 82 VDD, 90 VSS, 91 VDD, 102 VSS, 103 VDD, 113 VSS, 114 VDD, 125 VCAP_2, 126 VSS, 127 VDD, 135 VSS, 136 VDD, 148 VSS, 149 VDD, 158 VSS, 159 VDD, 166 BOOT0, 171 PDR_ON, 172 VDD

## SW-DPDT
designator S?
footprint SW-22D18 (直插三档开关)
pins: 1, 2, 3, 4, 5, 6

## SW-PB
designator S?
Switch; Published: 24-Mar-1999; LatestRevisionDate: 17-Jul-2002; LatestRevisionNote: Re-released for DXP Platform.; PackageReference: SPST-2; Publisher: Altium Limited
footprint SW-TS-017A-2-59
pins: 1, 2

## SW-SPDT
designator S?
footprint SW-3
pins: 1, 2, 3

## SW-SPST
designator S?
footprint SW-3
pins: 1, 2

## SW_JOYSTICK_SKRHA
designator JOY, comment JOY
footprint SW_JOYSTICK_SKRHA
pins: 1 A, 2 Center, 3 C, 4 B, 5 Common, 6 D, 7 SHIELD "D"

## SX1308
designator U?
footprint SOT23-6 (SOT-457/SC-74; 6 Leads; Body 3 x 3 mm, inc. leads (LxW max))
pins: 1 SW, 2 GND, 3 FB, 4 EN, 5 IN, 6 NC

## SY6712ABC
designator U?
footprint SOT23-6 (SOT-457/SC-74; 6 Leads; Body 3 x 3 mm, inc. leads (LxW max))
pins: 1 OUT2, 2 GND, 3 OUT1, 4 VCC, 5 IN1, 6 IN2

## SY8088
designator U?
DCDC降压芯片
footprint SOT23-5 (SOT-23/SC-74A; 5 Leads; Body 3 x 3 mm, inc. leads (LxW max))
pins: 1 EN, 2 GND, 3 LX, 4 IN, 5 FB

## SZ05-ZIGBEE
designator ZIGBEE?
footprint SZ05-ZIGBEE
pins: 1A TX-RS232, 1B RX-RS232, 1C NC., 1D RESET, 5 DATA, 6 RUN, 7 NET, 8 ALARM, 9 SLEEP, 15 GND, 16 +5V, 17 RX-TTL, 18 TX-TTL, 19 GND-RS232, A 485CTL, B CENTER, C DEVICE, D CONFIG

## TCA9803
designator *
footprint MSOP8
pins: 1 VCCA, 2 SCLA, 3 SDAA, 4 GND, 5 EN, 6 SDAB, 7 SCLB, 8 VCCB

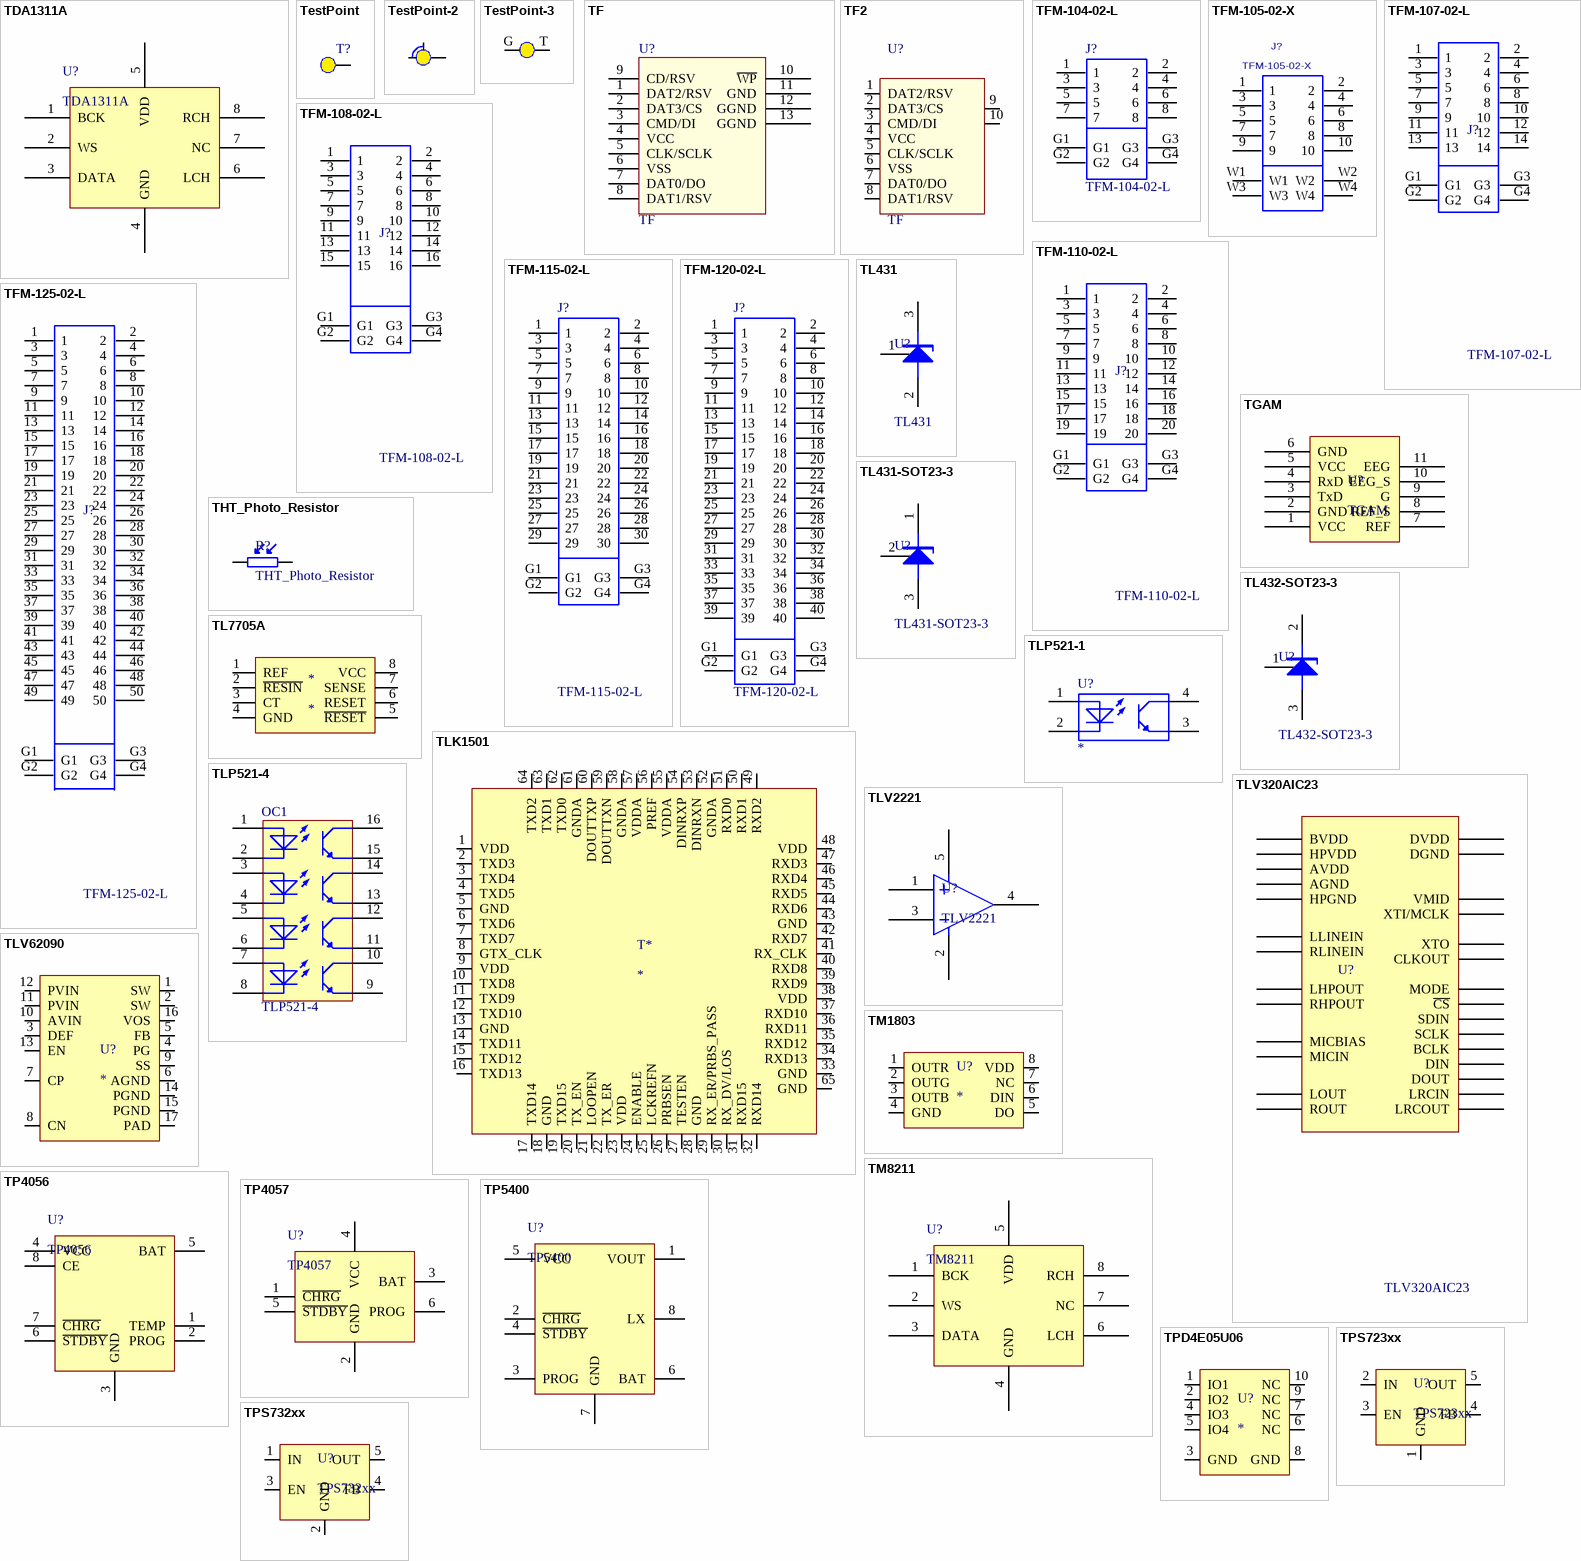
[diagram p27: symbols TDA1311A to TPS732xx]

## TDA1311A
designator U?
Stereo Continuous Calibration DAC
footprint SOP-8_N (8-Pin Small Outline Integrated Circuit 1.27 mm Pitch, IPC Medium Density)
pins: 1 BCK "bit clock input", 2 WS "word select input", 3 DATA "data input", 4 GND "ground", 5 VDD "supply voltage", 6 LCH "left channel output", 7 NC "not connected", 8 RCH "right channel output"

## TestPoint
designator T?  (value not drawn)
footprint TestPoint_D30
footprint TestPoint_D40
footprint TestHole_D60d30
pins: TP TestPoint

## TestPoint-2
designator *  (value not drawn)
footprint TestPoint - 3
pins: 1 TestPoint, 2, 3

## TestPoint-3
designator *  (value not drawn)
footprint TestPoint - 4
pins: G, T

## TF
designator U?
footprint TF2
pins: 1 DAT2/RSV, 2 DAT3/CS, 3 CMD/DI, 4 VCC, 5 CLK/SCLK, 6 VSS, 7 DAT0/DO, 8 DAT1/RSV, 9 CD/RSV, 10 ~{WP}, 11 GND, 12 GGND, 13 GGND

## TF2
designator U?, comment TF
footprint TF3
pins: 1 DAT2/RSV, 2 DAT3/CS, 3 CMD/DI, 4 VCC, 5 CLK/SCLK, 6 VSS, 7 DAT0/DO, 8 DAT1/RSV, 9, 10

## TFM-104-02-L
designator J?
footprint TFM_104_02_D_WT
pins: 1, 2, 3, 4, 5, 6, 7, 8, G1, G2, G3, G4

## TFM-105-02-X
designator J?
footprint TFM_105_02_X_DH
footprint TFM_105_02_WT
pins: 1, 2, 3, 4, 5, 6, 7, 8, 9, 10, W1, W2, W3, W4

## TFM-107-02-L
designator J?
footprint TFM_107_02_WT
pins: 1, 2, 3, 4, 5, 6, 7, 8, 9, 10, 11, 12, 13, 14, G1, G2, G3, G4

## TFM-108-02-L
designator J?
footprint TFM_108_02_D_WT
pins: 1, 2, 3, 4, 5, 6, 7, 8, 9, 10, 11, 12, 13, 14, 15, 16, G1, G2, G3, G4

## TFM-110-02-L
designator J?
footprint TFM_110_02_L_DH
footprint TFM_110_02_D_WT
pins: 1, 2, 3, 4, 5, 6, 7, 8, 9, 10, 11, 12, 13, 14, 15, 16, 17, 18, 19, 20, G1, G2, G3, G4

## TFM-115-02-L
designator J?
footprint TFM_115_02_D_WT
pins: 1, 2, 3, 4, 5, 6, 7, 8, 9, 10, 11, 12, 13, 14, 15, 16, 17, 18, 19, 20, 21, 22, 23, 24, 25, 26, 27, 28, 29, 30, G1, G2, G3, G4

## TFM-120-02-L
designator J?
footprint TFM_120_02_L_DH
pins: 1, 2, 3, 4, 5, 6, 7, 8, 9, 10, 11, 12, 13, 14, 15, 16, 17, 18, 19, 20, 21, 22, 23, 24, 25, 26, 27, 28, 29, 30, 31, 32, 33, 34, 35, 36, 37, 38, 39, 40, G1, G2, G3, G4

## TFM-125-02-L
designator J?
footprint FTE-125-03-DV-ES
footprint CLE-125-01-G-DV
pins: 1, 2, 3, 4, 5, 6, 7, 8, 9, 10, 11, 12, 13, 14, 15, 16, 17, 18, 19, 20, 21, 22, 23, 24, 25, 26, 27, 28, 29, 30, 31, 32, 33, 34, 35, 36, 37, 38, 39, 40, 41, 42, 43, 44, 45, 46, 47, 48, 49, 50, G1, G2, G3, G4

## TGAM
designator U?
footprint TGAM
pins: 1 VCC, 2 GND, 3 TxD, 4 RxD, 5 VCC, 6 GND, 7 REF, 8 REF_S, 9 G, 10 EEG_S, 11 EEG

## THT_Photo_Resistor
designator R?
footprint THT_Photo_Resistor (PDV-P5001)
pins: 1, 2

## TL431
designator U?
footprint TL431
pins: 1 Ref "REFERENCE", 2 A "ANODE", 3 K "CATHODE"

## TL431-SOT23-3
designator U?
footprint TL431-SOT23-3 (TL431)
pins: 1 K "CATHODE", 2 Ref "REFERENCE", 3 A "ANODE"

## TL432-SOT23-3
designator U?
footprint TL431-SOT23-3 (TL431)
pins: 1 Ref "REFERENCE", 2 K "CATHODE", 3 A "ANODE"

## TL7705A
designator *
footprint SOP-8
pins: 1 REF, 2 ~{RESIN}, 3 CT, 4 GND, 5 ~{RESET}, 6 RESET, 7 SENSE, 8 VCC

## TLK1501
designator T*
footprint QFP64
pins: 1 VDD, 2 TXD3, 3 TXD4, 4 TXD5, 5 GND, 6 TXD6, 7 TXD7, 8 GTX_CLK, 9 VDD, 10 TXD8, 11 TXD9, 12 TXD10, 13 GND, 14 TXD11, 15 TXD12, 16 TXD13, 17 TXD14, 18 GND, 19 TXD15, 20 TX_EN, 21 LOOPEN, 22 TX_ER, 23 VDD, 24 ENABLE, 25 LCKREFN, 26 PRBSEN, 27 TESTEN, 28 GND, 29 RX_ER/PRBS_PASS, 30 RX_DV/LOS, 31 RXD15, 32 RXD14, 33 GND, 34 RXD13, 35 RXD12, 36 RXD11, 37 RXD10, 38 VDD, 39 RXD9, 40 RXD8, 41 RX_CLK, 42 RXD7, 43 GND, 44 RXD6, 45 RXD5, 46 RXD4, 47 RXD3, 48 VDD, 49 RXD2, 50 RXD1, 51 RXD0, 52 GNDA, 53 DINRXN, 54 DINRXP, 55 VDDA, 56 PREF, 57 VDDA, 58 GNDA, 59 DOUTTXN, 60 DOUTTXP, 61 GNDA, 62 TXD0, 63 TXD1, 64 TXD2, 65 GND

## TLP521-1
designator U?
光耦
footprint DIP4
footprint SOP-4
pins: 1, 2, 3, 4

## TLP521-4
designator OC1
footprint SOP-16
pins: 1, 2, 3, 4, 5, 6, 7, 8, 9, 10, 11, 12, 13, 14, 15, 16

## TLV320AIC23
designator U?
footprint SSOP28 - 1
pins: 1 BVDD, 2 CLKOUT, 3 BCLK, 4 DIN, 5 LRCIN, 6 DOUT, 7 LRCOUT, 8 HPVDD, 9 LHPOUT, 10 RHPOUT, 11 HPGND, 12 LOUT, 13 ROUT, 14 AVDD, 15 AGND, 16 VMID, 17 MICBIAS, 18 MICIN, 19 RLINEIN, 20 LLINEIN, 21 ~{CS}, 22 MODE, 23 SDIN, 24 SCLK, 25 XTI/MCLK, 26 XTO, 27 DVDD, 28 DGND

## TLV2221
designator U?
footprint TLV2221
pins: 1, 2, 3, 4, 5

## TLV62090
designator U?
footprint VQFN-16
pins: 1 SW, 2 SW, 3 DEF, 4 PG, 5 FB, 6 AGND, 7 CP, 8 CN, 9 SS, 10 AVIN, 11 PVIN, 12 PVIN, 13 EN, 14 PGND, 15 PGND, 16 VOS, 17 PAD